# Altium integrated library Xilinx Virtex-II.IntLib: 158 symbols (part 32 of 59)
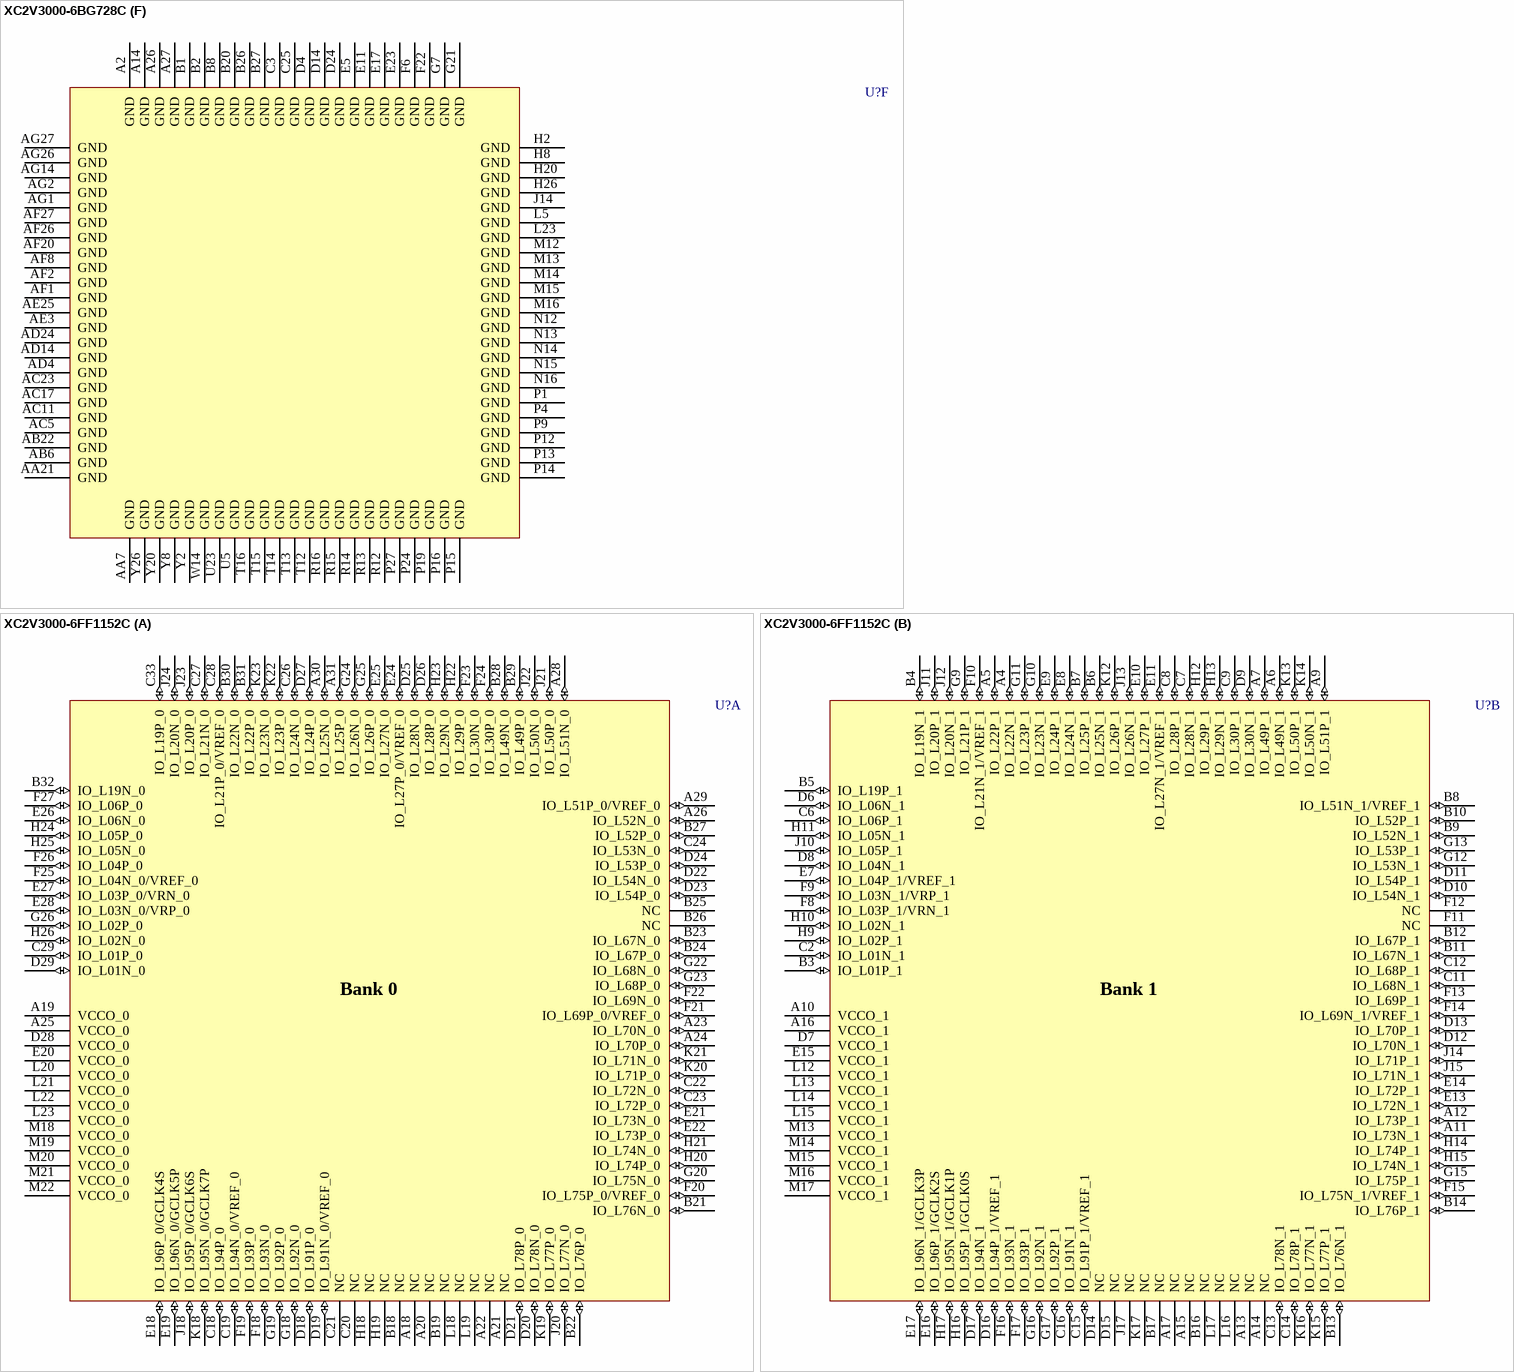
[diagram p430: symbols XC2V3000-6BG728C to XC2V3000-6FF1152C]

## XC2V3000-6BG728C
designator U?
Virtex-II 1.5V FPGA, 728-Ball BGA, Commercial Grade; PackageDocument: ver1.0, Apr-2001; Published: 15-Apr-2002; DatasheetDocument: Mar-2004; PackageReference: BG728; Publisher: Altium Limited; Code_JEDEC: MS-034-BAR-1
footprint BG728 (728-Ball Plastic Ball Grid Array (BG728))
3D model XC2V3000-BG728 (728-Ball Plastic Ball Grid Array (BG728))
signal-integrity model XC2V3000_BG728 (Virtex-II)
part A pins: A3 IO_L01P_0 (io), A4 IO_L02P_0 (io), A5 IO_L04P_0 (io), A6 IO_L06P_0 (io), A7 IO_L24P_0 (io), A8 IO_L49N_0 (io), A9 IO_L49P_0 (io), A10 IO_L67P_0 (io), A11 IO_L73P_0 (io), A12 IO_L78P_0 (io), A13 IO_L94P_0 (io), A15 IO_L95N_1/GCLK1P (io), A16 IO_L78N_1 (io), A17 IO_L72N_1 (io), A18 IO_L67N_1 (io), A19 IO_L49N_1 (io), A20 IO_L49P_1 (io), A21 IO_L19N_1 (io), A22 IO_L06N_1 (io), A23 IO_L03N_1/VRP_1 (io), A24 IO_L02N_1 (io), A25 IO_L01N_1 (io), B3 IO_L01N_0 (io), B4 IO_L02N_0 (io), B5 IO_L04N_0/VREF_0 (io), B6 IO_L06N_0 (io), B7 IO_L24N_0 (io), B9 IO_L30P_0 (io), B10 IO_L67N_0 (io), B11 IO_L73N_0 (io), B12 IO_L78N_0 (io), B13 IO_L94N_0/VREF_0 (io), B15 IO_L95P_1/GCLK0S (io), B16 IO_L78P_1 (io), B17 IO_L72P_1 (io), B18 IO_L67P_1 (io), B19 IO_L30N_1 (io), B21 IO_L19P_1 (io), B22 IO_L06P_1 (io), B23 IO_L03P_1/VRN_1 (io), B24 IO_L02P_1 (io), B25 IO_L01P_1 (io), C5 IO_L03N_0/VRP_0 (io), C6 IO_L03P_0/VRN_0 (io), C7 IO_L22N_0 (io), C8 IO_L22P_0 (io), C9 IO_L30N_0 (io), C10 IO_L54P_0 (io), C11 IO_L72P_0 (io), C12 VCCO_0 (power), C13 IO_L95N_0/GCLK7P (io), C14 IO_L95P_0/GCLK6S (io), C15 IO_L94N_1 (io), C16 VCCO_1 (power), C17 IO_L70N_1 (io), C18 IO_L54N_1 (io), C19 IO_L30P_1 (io), C20 IO_L24N_1 (io), C21 IO_L24P_1 (io), C22 IO_L05N_1 (io), C23 IO_L05P_1 (io), D6 IO_L05P_0 (io), D7 VCCO_0 (power), D8 IO_L19P_0 (io), D9 IO_L28P_0 (io), D10 IO_L54N_0 (io), D11 IO_L72N_0 (io), D12 IO_L76P_0 (io), D13 IO_L93P_0 (io), D15 IO_L94P_1/VREF_1 (io), D16 IO_L76N_1 (io), D17 IO_L70P_1 (io), D18 IO_L54P_1 (io), D19 IO_L28N_1 (io), D20 IO_L22N_1 (io), D21 VCCO_1 (power), D22 IO_L04N_1 (io), E6 IO_L05N_0 (io), E7 IO_L19N_0 (io), E8 IO_L21P_0/VREF_0 (io), E9 IO_L28N_0 (io), E10 IO_L52P_0 (io), E12 IO_L76N_0 (io), E13 IO_L93N_0 (io), E14 IO_L96P_0/GCLK4S (io), E15 IO_L93N_1 (io), E16 IO_L76P_1 (io), E18 IO_L52N_1 (io), E19 IO_L28P_1 (io), E20 IO_L21N_1/VREF_1 (io), E21 IO_L22P_1 (io), E22 IO_L04P_1/VREF_1 (io), F8 IO_L21N_0 (io), F9 IO_L27N_0 (io), F10 IO_L52N_0 (io), F11 IO_L70N_0 (io), F12 IO_L70P_0 (io), F13 IO_L92P_0 (io), F14 IO_L96N_0/GCLK5P (io), F15 IO_L93P_1 (io), F16 IO_L75N_1/VREF_1 (io), F17 IO_L75P_1 (io), F18 IO_L52P_1 (io), F19 IO_L27N_1/VREF_1 (io), F20 IO_L21P_1 (io), G9 IO_L27P_0/VREF_0 (io), G10 IO_L51N_0 (io), G11 IO_L69N_0 (io), G12 VCCO_0 (power), G13 IO_L92N_0 (io), G14 IO_L96N_1/GCLK3P (io), G15 IO_L92N_1 (io), G16 VCCO_1 (power), G17 IO_L69P_1 (io), G18 IO_L69N_1/VREF_1 (io), G19 IO_L27P_1 (io), H9 IO_L25N_0 (io), H10 IO_L51P_0/VREF_0 (io), H11 IO_L69P_0/VREF_0 (io), H12 IO_L75N_0 (io), H13 IO_L91P_0 (io), H14 IO_L96P_1/GCLK2S (io), H15 IO_L92P_1 (io), H16 IO_L73N_1 (io), H17 IO_L73P_1 (io), H18 IO_L51P_1 (io), H19 IO_L51N_1/VREF_1 (io), J9 IO_L25P_0 (io), J10 VCCO_0 (power), J11 VCCO_0 (power), J12 IO_L75P_0/VREF_0 (io), J13 IO_L91N_0/VREF_0 (io), J15 IO_L91N_1 (io), J16 IO_L91P_1/VREF_1 (io), J17 VCCO_1 (power), J18 VCCO_1 (power), J19 IO_L25N_1 (io), J20 IO_L25P_1 (io), K11 VCCO_0 (power), K12 VCCO_0 (power), K13 VCCO_0 (power), K15 VCCO_1 (power), K16 VCCO_1 (power), K17 VCCO_1 (power)
part B pins: AA23 IO_L25P_3 (io), AA24 VCCO_3 (power), AA25 IO_L21P_3 (io), AA26 IO_L21N_3/VREF_3 (io), AA27 IO_L22N_3 (io), AB23 IO_L06P_3 (io), AB24 IO_L06N_3 (io), AB25 IO_L19P_3 (io), AB26 IO_L19N_3 (io), AB27 IO_L22P_3 (io), AC24 IO_L03P_3 (io), AC25 IO_L03N_3/VREF_3 (io), AC26 IO_L04P_3 (io), AC27 IO_L04N_3 (io), AD25 IO_L01P_3 (io), AD26 IO_L01N_3 (io), AD27 IO_L02N_3/VRP_3 (io), AE27 IO_L02P_3/VRN_3 (io), C27 IO_L01N_2 (io), D25 IO_L02N_2/VRP_2 (io), D26 IO_L02P_2/VRN_2 (io), D27 IO_L01P_2 (io), E24 IO_L03N_2 (io), E25 IO_L03P_2/VREF_2 (io), E26 IO_L04N_2 (io), E27 IO_L04P_2 (io), F23 IO_L06N_2 (io), F24 IO_L06P_2 (io), F25 IO_L19N_2 (io), F26 IO_L19P_2 (io), F27 IO_L21N_2 (io), G23 IO_L22N_2 (io), G24 VCCO_2 (power), G25 IO_L24N_2 (io), G26 IO_L24P_2 (io), G27 IO_L21P_2/VREF_2 (io), H21 IO_L25N_2 (io), H22 IO_L27N_2 (io), H23 IO_L22P_2 (io), H24 IO_L28N_2 (io), H25 IO_L28P_2 (io), H27 IO_L30N_2 (io), J21 IO_L25P_2 (io), J22 IO_L27P_2/VREF_2 (io), J23 IO_L43N_2 (io), J24 IO_L43P_2 (io), J25 IO_L45N_2 (io), J26 IO_L45P_2/VREF_2 (io), J27 IO_L30P_2 (io), K19 VCCO_2 (power), K20 IO_L46N_2 (io), K21 IO_L46P_2 (io), K22 IO_L48N_2 (io), K23 IO_L48P_2 (io), K24 IO_L49N_2 (io), K25 IO_L49P_2 (io), K26 IO_L51N_2 (io), K27 IO_L51P_2/VREF_2 (io), L18 VCCO_2 (power), L19 VCCO_2 (power), L20 IO_L52N_2 (io), L21 IO_L54N_2 (io), L22 IO_L54P_2 (io), L24 IO_L67N_2 (io), L25 IO_L67P_2 (io), L26 IO_L69N_2 (io), L27 IO_L69P_2/VREF_2 (io), M18 VCCO_2 (power), M19 IO_L70N_2 (io), M20 IO_L52P_2 (io), M21 VCCO_2 (power), M22 IO_L72N_2 (io), M23 IO_L72P_2 (io), M24 IO_L73N_2 (io), M25 VCCO_2 (power), M26 IO_L75N_2 (io), M27 IO_L75P_2/VREF_2 (io), N18 VCCO_2 (power), N19 IO_L70P_2 (io), N20 IO_L76N_2 (io), N21 IO_L76P_2 (io), N22 IO_L78N_2 (io), N23 IO_L78P_2 (io), N24 IO_L73P_2 (io), N25 IO_L91N_2 (io), N26 IO_L93N_2 (io), N27 IO_L93P_2/VREF_2 (io), P20 IO_L94N_2 (io), P21 IO_L94P_2 (io), P22 IO_L96N_2 (io), P23 IO_L96P_2 (io), P25 IO_L91P_2 (io), R18 VCCO_3 (power), R19 IO_L78P_3 (io), R20 IO_L78N_3 (io), R21 IO_L91P_3 (io), R22 IO_L91N_3 (io), R23 IO_L93N_3/VREF_3 (io), R24 IO_L94P_3 (io), R25 IO_L94N_3 (io), R26 IO_L96P_3 (io), R27 IO_L96N_3 (io), T18 VCCO_3 (power), T19 IO_L72P_3 (io), T20 IO_L72N_3 (io), T21 VCCO_3 (power), T22 IO_L73N_3 (io), T23 IO_L93P_3 (io), T24 IO_L75N_3/VREF_3 (io), T25 VCCO_3 (power), T26 IO_L76P_3 (io), T27 IO_L76N_3 (io), U18 VCCO_3 (power), U19 VCCO_3 (power), U20 IO_L67P_3 (io), U21 IO_L67N_3 (io), U22 IO_L73P_3 (io), U24 IO_L75P_3 (io), U25 IO_L69N_3/VREF_3 (io), U26 IO_L70P_3 (io), U27 IO_L70N_3 (io), V19 VCCO_3 (power), V20 IO_L49P_3 (io), V21 IO_L49N_3 (io), V22 IO_L51N_3/VREF_3 (io), V23 IO_L52P_3 (io), V24 IO_L52N_3 (io), V25 IO_L69P_3 (io), V26 IO_L54P_3 (io), V27 IO_L54N_3 (io), W19 IO_L28N_3 (io), W20 IO_L43P_3 (io), W21 IO_L43N_3 (io), W22 IO_L51P_3 (io), W23 IO_L45P_3 (io), W24 IO_L45N_3/VREF_3 (io), W25 IO_L46P_3 (io), W26 IO_L46N_3 (io), W27 IO_L48N_3 (io), Y19 IO_L28P_3 (io), Y21 IO_L24P_3 (io), Y22 IO_L24N_3 (io), Y23 IO_L25N_3 (io), Y24 IO_L27P_3 (io), Y25 IO_L27N_3/VREF_3 (io), Y27 IO_L48P_3 (io)
part C pins: AA8 IO_L22P_5 (io), AA9 IO_L27P_5 (io), AA10 IO_L69N_5/VREF_5 (io), AA11 IO_L69P_5 (io), AA12 VCCO_5 (power), AA13 IO_L92N_5 (io), AA14 IO_L96P_4/GCLK0P (io), AA15 IO_L92P_4 (io), AA16 VCCO_4 (power), AA17 IO_L69N_4 (io), AA18 IO_L51N_4 (io), AA19 IO_L28P_4 (io), AA20 IO_L24P_4 (io), AB7 IO_L19P_5 (io), AB8 IO_L22N_5 (io), AB9 IO_L27N_5/VREF_5 (io), AB10 IO_L52P_5 (io), AB11 IO_L75P_5 (io), AB12 IO_L75N_5/VREF_5 (io), AB13 IO_L93P_5 (io), AB14 IO_L96P_5/GCLK6P (io), AB15 IO_L92N_4 (io), AB16 IO_L70P_4 (io), AB17 IO_L70N_4 (io), AB18 IO_L52N_4 (io), AB19 IO_L28N_4 (io), AB20 IO_L24N_4 (io), AB21 IO_L19P_4 (io), AC7 IO_L19N_5 (io), AC8 IO_L24P_5 (io), AC9 IO_L28P_5 (io), AC10 IO_L52N_5 (io), AC12 IO_L76P_5 (io), AC13 IO_L93N_5 (io), AC14 IO_L96N_5/GCLK7S (io), AC15 IO_L93N_4 (io), AC16 IO_L76N_4 (io), AC18 IO_L52P_4 (io), AC19 IO_L30N_4 (io), AC20 IO_L25N_4 (io), AC21 IO_L19N_4 (io), AD5 IO_L03P_5/D5/ALT_VRN_5 (io), AD6 IO_L05P_5/VRN_5 (io), AD7 VCCO_5 (power), AD8 IO_L24N_5 (io), AD9 IO_L28N_5 (io), AD10 IO_L54P_5 (io), AD11 IO_L70P_5 (io), AD12 IO_L76N_5 (io), AD13 IO_L94P_5/VREF_5 (io), AD15 IO_L93P_4 (io), AD16 IO_L76P_4 (io), AD17 IO_L72N_4 (io), AD18 IO_L54N_4 (io), AD19 IO_L30P_4 (io), AD20 IO_L25P_4 (io), AD21 VCCO_4 (power), AD22 IO_L05N_4/VRP_4 (io), AD23 IO_L03N_4/D2/ALT_VRP_4 (io), AE5 IO_L03N_5/D4/ALT_VRP_5 (io), AE6 IO_L05N_5/VRP_5 (io), AE7 IO_L25P_5 (io), AE8 IO_L25N_5 (io), AE9 IO_L30P_5 (io), AE10 IO_L54N_5 (io), AE11 IO_L70N_5 (io), AE12 VCCO_5 (power), AE13 IO_L94N_5 (io), AE14 IO_L94P_4 (io), AE15 IO_L94N_4/VREF_4 (io), AE16 VCCO_4 (power), AE17 IO_L72P_4 (io), AE18 IO_L54P_4 (io), AE19 IO_L49N_4 (io), AE20 IO_L21P_4/VREF_4 (io), AE21 IO_L21N_4 (io), AE22 IO_L05P_4/VRN_4 (io), AE23 IO_L03P_4/D3/ALT_VRN_4 (io), AF3 IO_L01P_5/CS_B (io), AF4 IO_L02P_5/D7 (io), AF5 IO_L04P_5/VREF_5 (io), AF6 IO_L06P_5 (io), AF7 IO_L21P_5 (io), AF9 IO_L30N_5 (io), AF10 IO_L67P_5 (io), AF11 IO_L72P_5 (io), AF12 IO_L78P_5 (io), AF13 IO_L95P_5/GCLK4P (io), AF15 IO_L95N_4/GCLK3S (io), AF16 IO_L78N_4 (io), AF17 IO_L73N_4 (io), AF18 IO_L67N_4 (io), AF19 IO_L49P_4 (io), AF21 IO_L22N_4 (io), AF22 IO_L06N_4 (io), AF23 IO_L04N_4/VREF_4 (io), AF24 IO_L02N_4/D0 (io), AF25 IO_L01N_4/DOUT (io), AG3 IO_L01N_5/RDWR_B (io), AG4 IO_L02N_5/D6 (io), AG5 IO_L04N_5 (io), AG6 IO_L06N_5 (io), AG7 IO_L21N_5/VREF_5 (io), AG8 IO_L49P_5 (io), AG9 IO_L49N_5 (io), AG10 IO_L67N_5 (io), AG11 IO_L72N_5 (io), AG12 IO_L78N_5 (io), AG13 IO_L95N_5/GCLK5S (io), AG15 IO_L95P_4/GCLK2P (io), AG16 IO_L78P_4 (io), AG17 IO_L73P_4 (io), AG18 IO_L67P_4 (io), AG19 IO_L27P_4/VREF_4 (io), AG20 IO_L27N_4 (io), AG21 IO_L22P_4 (io), AG22 IO_L06P_4 (io), AG23 IO_L04P_4 (io), AG24 IO_L02P_4/D1 (io), AG25 IO_L01P_4/INIT_B (io), V11 VCCO_5 (power), V12 VCCO_5 (power), V13 VCCO_5 (power), V15 VCCO_4 (power), V16 VCCO_4 (power), V17 VCCO_4 (power), W10 VCCO_5 (power), W11 VCCO_5 (power), W12 IO_L91P_5/VREF_5 (io), W13 IO_L91N_5 (io), W15 IO_L91N_4/VREF_4 (io), W16 IO_L75P_4/VREF_4 (io), W17 VCCO_4 (power), W18 VCCO_4 (power), Y9 IO_L51N_5/VREF_5 (io), Y10 IO_L51P_5 (io), Y11 IO_L73P_5 (io), Y12 IO_L73N_5 (io), Y13 IO_L92P_5 (io), Y14 IO_L96N_4/GCLK1S (io), Y15 IO_L91P_4 (io), Y16 IO_L75N_4 (io), Y17 IO_L69P_4/VREF_4 (io), Y18 IO_L51P_4/VREF_4 (io)
part D pins: AA1 IO_L21N_6/VREF_6 (io), AA2 IO_L24N_6 (io), AA3 IO_L24P_6 (io), AA4 VCCO_6 (power), AA5 IO_L22P_6 (io), AA6 IO_L22N_6 (io), AB1 IO_L21P_6 (io), AB2 IO_L19N_6 (io), AB3 IO_L19P_6 (io), AB4 IO_L06N_6 (io), AB5 IO_L06P_6 (io), AC1 IO_L04N_6 (io), AC2 IO_L04P_6 (io), AC3 IO_L03N_6/VREF_6 (io), AC4 IO_L03P_6 (io), AD1 IO_L01N_6 (io), AD2 IO_L02N_6/VRP_6 (io), AD3 IO_L02P_6/VRN_6 (io), AE1 IO_L01P_6 (io), C1 IO_L03N_7 (io), D1 IO_L03P_7/VREF_7 (io), D2 IO_L01P_7 (io), D3 IO_L01N_7 (io), E1 IO_L04P_7 (io), E2 IO_L04N_7 (io), E3 IO_L02P_7/VRN_7 (io), E4 IO_L02N_7/VRP_7 (io), F1 IO_L24N_7 (io), F2 IO_L21P_7/VREF_7 (io), F3 IO_L21N_7 (io), F4 IO_L06P_7 (io), F5 IO_L06N_7 (io), G1 IO_L24P_7 (io), G2 IO_L22P_7 (io), G3 IO_L22N_7 (io), G4 VCCO_7 (power), G5 IO_L19P_7 (io), G6 IO_L19N_7 (io), H1 IO_L46N_7 (io), H3 IO_L30P_7 (io), H4 IO_L30N_7 (io), H5 IO_L27P_7/VREF_7 (io), H6 IO_L27N_7 (io), J1 IO_L46P_7 (io), J2 IO_L45P_7/VREF_7 (io), J3 IO_L45N_7 (io), J4 IO_L43N_7 (io), J5 IO_L28P_7 (io), J6 IO_L28N_7 (io), J7 IO_L25P_7 (io), J8 IO_L25N_7 (io), K1 IO_L54P_7 (io), K2 IO_L54N_7 (io), K3 IO_L43P_7 (io), K4 IO_L52P_7 (io), K5 IO_L52N_7 (io), K6 IO_L49P_7 (io), K7 IO_L49N_7 (io), K8 IO_L48N_7 (io), K9 VCCO_7 (power), L1 IO_L69P_7/VREF_7 (io), L2 IO_L69N_7 (io), L3 IO_L67P_7 (io), L4 IO_L67N_7 (io), L6 IO_L51P_7/VREF_7 (io), L7 IO_L51N_7 (io), L8 IO_L48P_7 (io), L9 VCCO_7 (power), L10 VCCO_7 (power), M1 IO_L73P_7 (io), M2 IO_L73N_7 (io), M3 VCCO_7 (power), M4 IO_L72P_7 (io), M5 IO_L72N_7 (io), M6 IO_L75N_7 (io), M7 VCCO_7 (power), M8 IO_L70P_7 (io), M9 IO_L70N_7 (io), M10 VCCO_7 (power), N1 IO_L93P_7/VREF_7 (io), N2 IO_L93N_7 (io), N3 IO_L91P_7 (io), N4 IO_L91N_7 (io), N5 IO_L75P_7/VREF_7 (io), N6 IO_L78P_7 (io), N7 IO_L78N_7 (io), N8 IO_L76N_7 (io), N9 IO_L76P_7 (io), N10 VCCO_7 (power), P3 IO_L94N_6 (io), P5 IO_L96P_7 (io), P6 IO_L96N_7 (io), P7 IO_L94P_7 (io), P8 IO_L94N_7 (io), R1 IO_L96N_6 (io), R2 IO_L96P_6 (io), R3 IO_L94P_6 (io), R4 IO_L76N_6 (io), R5 IO_L93P_6 (io), R6 IO_L93N_6/VREF_6 (io), R7 IO_L91P_6 (io), R8 IO_L91N_6 (io), R9 IO_L73N_6 (io), R10 VCCO_6 (power), T1 IO_L78N_6 (io), T2 IO_L78P_6 (io), T3 VCCO_6 (power), T4 IO_L76P_6 (io), T5 IO_L75P_6 (io), T6 IO_L75N_6/VREF_6 (io), T7 VCCO_6 (power), T8 IO_L67N_6 (io), T9 IO_L73P_6 (io), T10 VCCO_6 (power), U1 IO_L72N_6 (io), U2 IO_L72P_6 (io), U3 IO_L70N_6 (io), U4 IO_L70P_6 (io), U6 IO_L69P_6 (io), U7 IO_L69N_6/VREF_6 (io), U8 IO_L67P_6 (io), U9 VCCO_6 (power), U10 VCCO_6 (power), V1 IO_L54N_6 (io), V2 IO_L54P_6 (io), V3 IO_L52N_6 (io), V4 IO_L52P_6 (io), V5 IO_L51P_6 (io), V6 IO_L51N_6/VREF_6 (io), V7 IO_L49P_6 (io), V8 IO_L49N_6 (io), V9 VCCO_6 (power), W1 IO_L28N_6 (io), W2 IO_L48N_6 (io), W3 IO_L48P_6 (io), W4 IO_L46N_6 (io), W5 IO_L46P_6 (io), W6 IO_L45P_6 (io), W7 IO_L45N_6/VREF_6 (io), W8 IO_L43P_6 (io), W9 IO_L43N_6 (io), Y1 IO_L28P_6 (io), Y3 IO_L27N_6/VREF_6 (io), Y4 IO_L27P_6 (io), Y5 IO_L25P_6 (io), Y6 IO_L25N_6 (io)
part E pins: AA22 CCLK (io), AC6 M0 (in), AC22 DONE (io), AE2 VCCAUX (power), AE4 M2 (in), AE24 PWRDWN_B (in), AE26 VCCAUX (power), AF14 VCCAUX (power), B14 VCCAUX (power), C2 VCCAUX (power), C4 PROG_B (in), C24 RSVD, C26 VCCAUX (power), D5 HSWAP_EN (in), D23 VBATT (power), F7 DXP, F21 TMS (in), G8 DXN, G20 TCK (in), G22 TDO (out), H7 TDI (in), K10 VCCINT (power), K14 VCCINT (power), K18 VCCINT (power), L11 VCCINT (power), L12 VCCINT (power), L13 VCCINT (power), L14 VCCINT (power), L15 VCCINT (power), L16 VCCINT (power), L17 VCCINT (power), M11 VCCINT (power), M17 VCCINT (power), N11 VCCINT (power), N17 VCCINT (power), P2 VCCAUX (power), P10 VCCINT (power), P11 VCCINT (power), P17 VCCINT (power), P18 VCCINT (power), P26 VCCAUX (power), R11 VCCINT (power), R17 VCCINT (power), T11 VCCINT (power), T17 VCCINT (power), U11 VCCINT (power), U12 VCCINT (power), U13 VCCINT (power), U14 VCCINT (power), U15 VCCINT (power), U16 VCCINT (power), U17 VCCINT (power), V10 VCCINT (power), V14 VCCINT (power), V18 VCCINT (power), Y7 M1 (in)
part F pins: A2 GND (power), A14 GND (power), A26 GND (power), A27 GND (power), AA7 GND (power), AA21 GND (power), AB6 GND (power), AB22 GND (power), AC5 GND (power), AC11 GND (power), AC17 GND (power), AC23 GND (power), AD4 GND (power), AD14 GND (power), AD24 GND (power), AE3 GND (power), AE25 GND (power), AF1 GND (power), AF2 GND (power), AF8 GND (power), AF20 GND (power), AF26 GND (power), AF27 GND (power), AG1 GND (power), AG2 GND (power), AG14 GND (power), AG26 GND (power), AG27 GND (power), B1 GND (power), B2 GND (power), B8 GND (power), B20 GND (power), B26 GND (power), B27 GND (power), C3 GND (power), C25 GND (power), D4 GND (power), D14 GND (power), D24 GND (power), E5 GND (power), E11 GND (power), E17 GND (power), E23 GND (power), F6 GND (power), F22 GND (power), G7 GND (power), G21 GND (power), H2 GND (power), H8 GND (power), H20 GND (power), H26 GND (power), J14 GND (power), L5 GND (power), L23 GND (power), M12 GND (power), M13 GND (power), M14 GND (power), M15 GND (power), M16 GND (power), N12 GND (power), N13 GND (power), N14 GND (power), N15 GND (power), N16 GND (power), P1 GND (power), P4 GND (power), P9 GND (power), P12 GND (power), P13 GND (power), P14 GND (power), P15 GND (power), P16 GND (power), P19 GND (power), P24 GND (power), P27 GND (power), R12 GND (power), R13 GND (power), R14 GND (power), R15 GND (power), R16 GND (power), T12 GND (power), T13 GND (power), T14 GND (power), T15 GND (power), T16 GND (power), U5 GND (power), U23 GND (power), W14 GND (power), Y2 GND (power), Y8 GND (power), Y20 GND (power), Y26 GND (power)
part A text: BANK 0; BANK 1
part B text: BANK 2; BANK 3
part C text: BANK 4; BANK 5
part D text: BANK 6; BANK 7

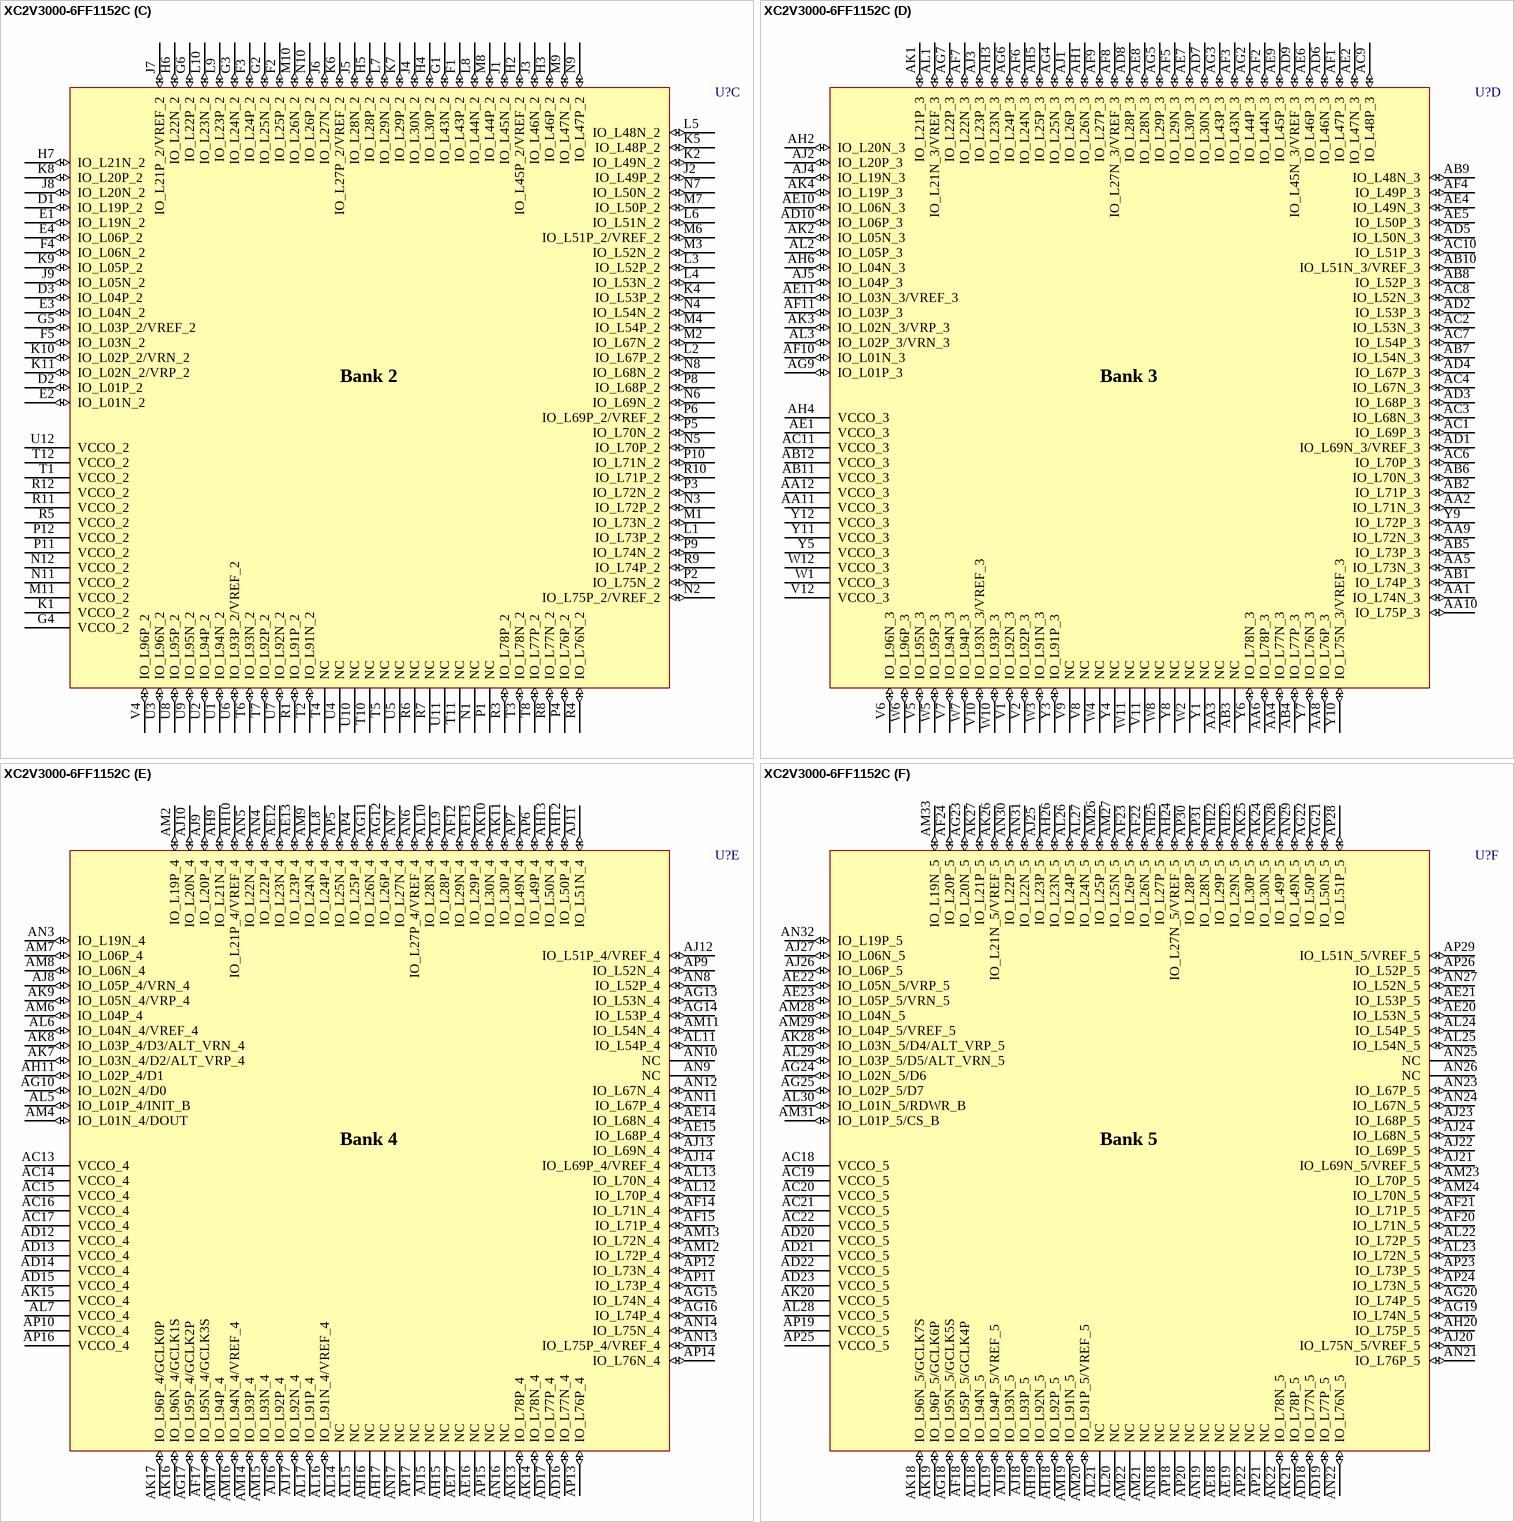
[diagram p288: symbol XC2V3000-6FF1152C]

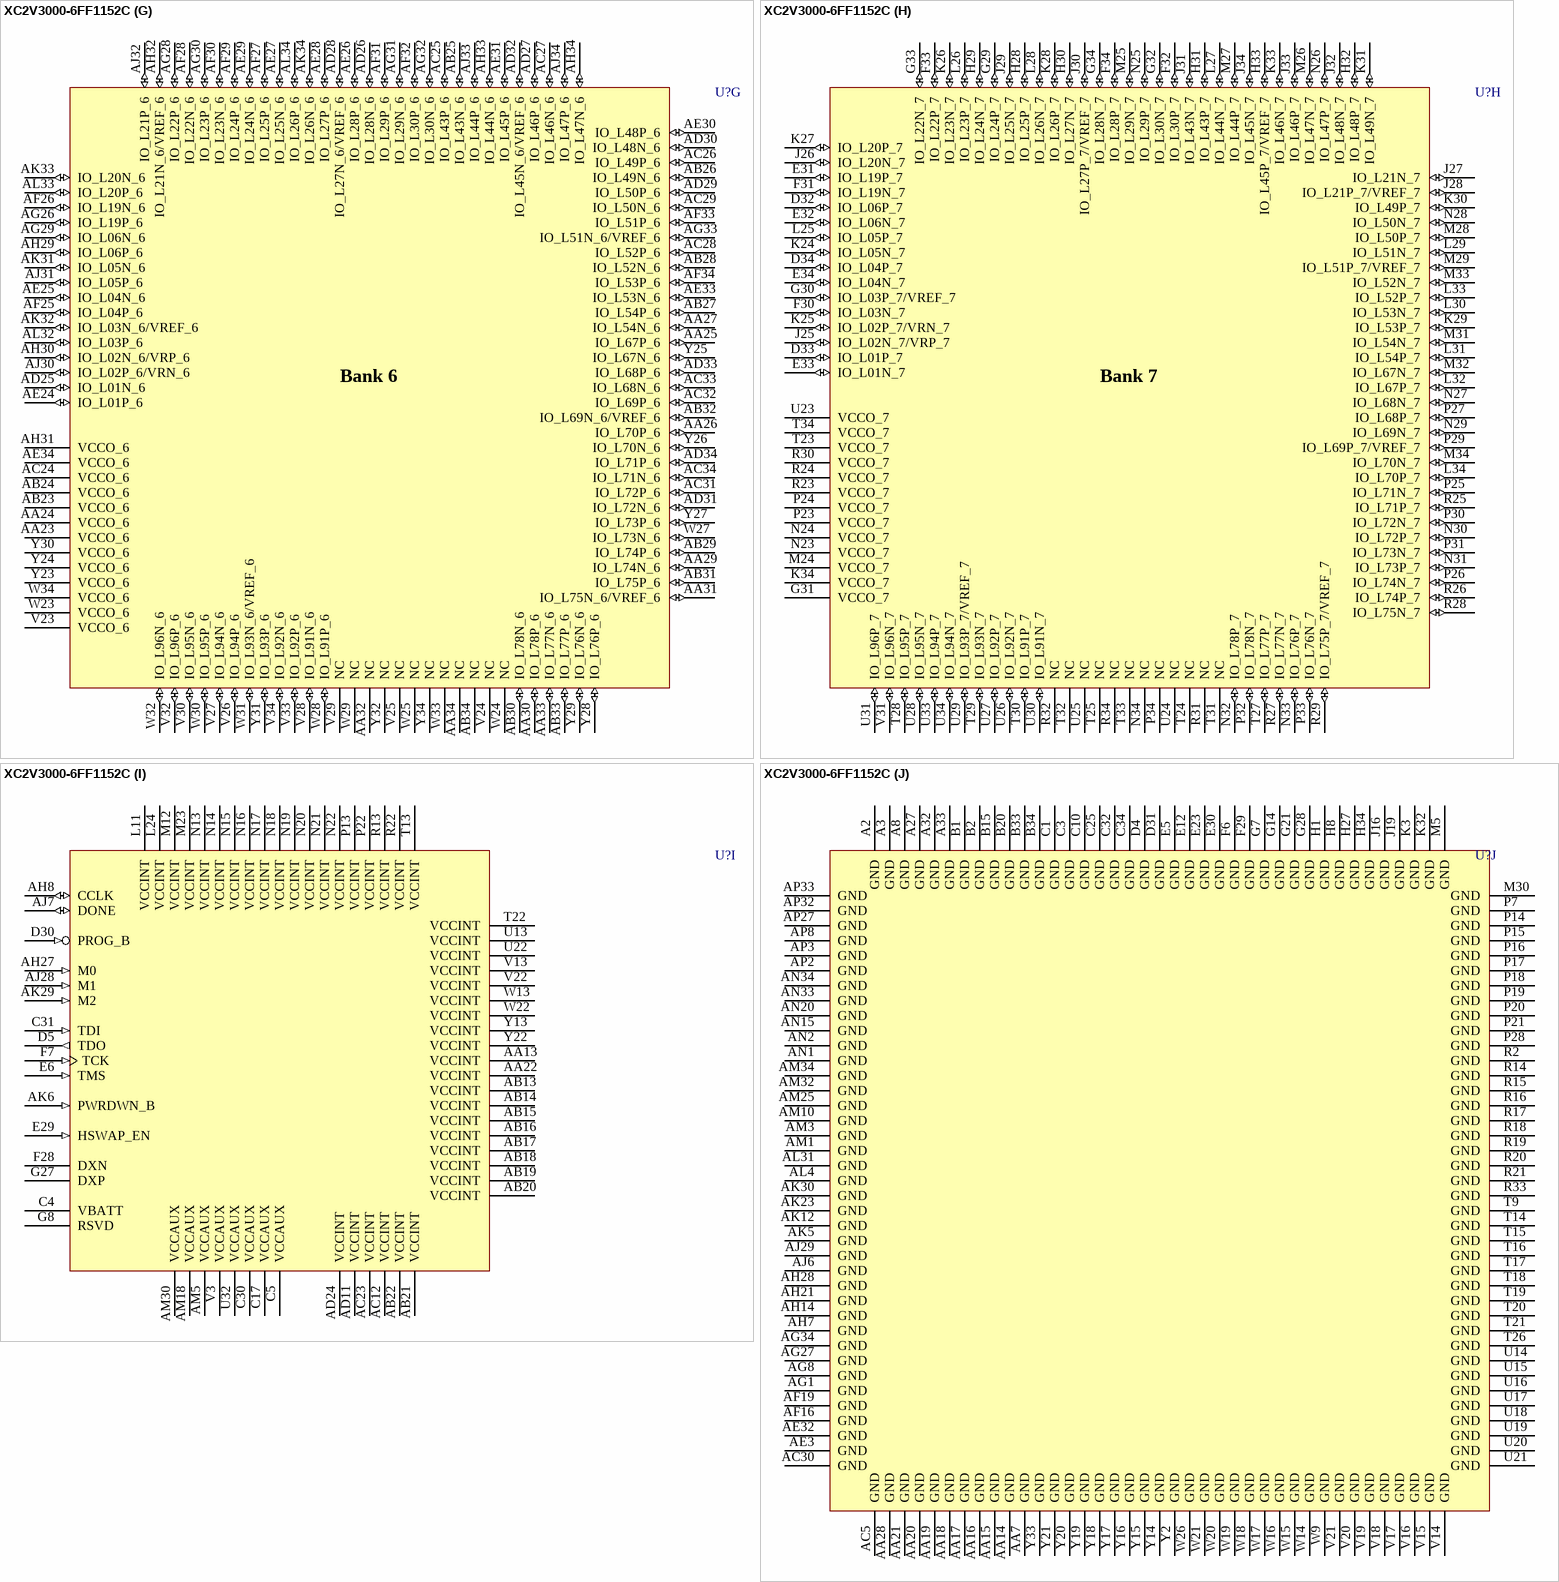
[diagram p289: symbol XC2V3000-6FF1152C]

## XC2V3000-6FF1152C
designator U?
Virtex-II 1.5V FPGA, 1152-Ball BGA, Commercial Grade; PackageDocument: ver1.0, Apr-2001; Published: 15-Apr-2002; DatasheetDocument: Mar-2004; PackageReference: FF1152; Publisher: Altium Limited; Code_JEDEC: MS-034-AAR-1
footprint FF1152 (1152-Ball Flip-Chip Fine Pitch Ball Grid Array (FF1152))
3D model XC2V3000-FF1152 (1152-Ball Flip-Chip Fine Pitch Ball Grid Array (FF1152))
signal-integrity model XC2V3000_FF1152 (Virtex-II)
part A pins: A18 NC, A19 VCCO_0 (power), A20 NC, A21 NC, A22 NC, A23 IO_L70N_0 (io), A24 IO_L70P_0 (io), A25 VCCO_0 (power), A26 IO_L52N_0 (io), A28 IO_L51N_0 (io), A29 IO_L51P_0/VREF_0 (io), A30 IO_L25N_0 (io), A31 IO_L25P_0 (io), B18 NC, B19 NC, B21 IO_L76N_0 (io), B22 IO_L76P_0 (io), B23 IO_L67N_0 (io), B24 IO_L67P_0 (io), B25 NC, B26 NC, B27 IO_L52P_0 (io), B28 IO_L49N_0 (io), B29 IO_L49P_0 (io), B30 IO_L22N_0 (io), B31 IO_L22P_0 (io), B32 IO_L19N_0 (io), C18 IO_L94P_0 (io), C19 IO_L94N_0/VREF_0 (io), C20 NC, C21 NC, C22 IO_L72N_0 (io), C23 IO_L72P_0 (io), C24 IO_L53N_0 (io), C26 IO_L24N_0 (io), C27 IO_L21N_0 (io), C28 IO_L21P_0/VREF_0 (io), C29 IO_L01P_0 (io), C33 IO_L19P_0 (io), D18 IO_L91P_0 (io), D19 IO_L91N_0/VREF_0 (io), D20 IO_L78N_0 (io), D21 IO_L78P_0 (io), D22 IO_L54N_0 (io), D23 IO_L54P_0 (io), D24 IO_L53P_0 (io), D25 IO_L28N_0 (io), D26 IO_L28P_0 (io), D27 IO_L24P_0 (io), D28 VCCO_0 (power), D29 IO_L01N_0 (io), E18 IO_L96P_0/GCLK4S (io), E19 IO_L96N_0/GCLK5P (io), E20 VCCO_0 (power), E21 IO_L73N_0 (io), E22 IO_L73P_0 (io), E24 IO_L27P_0/VREF_0 (io), E25 IO_L27N_0 (io), E26 IO_L06N_0 (io), E27 IO_L03P_0/VRN_0 (io), E28 IO_L03N_0/VRP_0 (io), F18 IO_L93N_0 (io), F19 IO_L93P_0 (io), F20 IO_L75P_0/VREF_0 (io), F21 IO_L69P_0/VREF_0 (io), F22 IO_L69N_0 (io), F23 IO_L30N_0 (io), F24 IO_L30P_0 (io), F25 IO_L04N_0/VREF_0 (io), F26 IO_L04P_0 (io), F27 IO_L06P_0 (io), G18 IO_L92N_0 (io), G19 IO_L92P_0 (io), G20 IO_L75N_0 (io), G22 IO_L68N_0 (io), G23 IO_L68P_0 (io), G24 IO_L26N_0 (io), G25 IO_L26P_0 (io), G26 IO_L02P_0 (io), H18 NC, H19 NC, H20 IO_L74P_0 (io), H21 IO_L74N_0 (io), H22 IO_L29P_0 (io), H23 IO_L29N_0 (io), H24 IO_L05P_0 (io), H25 IO_L05N_0 (io), H26 IO_L02N_0 (io), J18 IO_L95P_0/GCLK6S (io), J20 IO_L77N_0 (io), J21 IO_L50P_0 (io), J22 IO_L50N_0 (io), J23 IO_L20P_0 (io), J24 IO_L20N_0 (io), K18 IO_L95N_0/GCLK7P (io), K19 IO_L77P_0 (io), K20 IO_L71P_0 (io), K21 IO_L71N_0 (io), K22 IO_L23P_0 (io), K23 IO_L23N_0 (io), L18 NC, L19 NC, L20 VCCO_0 (power), L21 VCCO_0 (power), L22 VCCO_0 (power), L23 VCCO_0 (power), M18 VCCO_0 (power), M19 VCCO_0 (power), M20 VCCO_0 (power), M21 VCCO_0 (power), M22 VCCO_0 (power)
part B pins: A4 IO_L22N_1 (io), A5 IO_L22P_1 (io), A6 IO_L49N_1 (io), A7 IO_L49P_1 (io), A9 IO_L51P_1 (io), A10 VCCO_1 (power), A11 IO_L73N_1 (io), A12 IO_L73P_1 (io), A13 NC, A14 NC, A15 NC, A16 VCCO_1 (power), A17 NC, B3 IO_L01P_1 (io), B4 IO_L19N_1 (io), B5 IO_L19P_1 (io), B6 IO_L25N_1 (io), B7 IO_L25P_1 (io), B8 IO_L51N_1/VREF_1 (io), B9 IO_L52N_1 (io), B10 IO_L52P_1 (io), B11 IO_L67N_1 (io), B12 IO_L67P_1 (io), B13 IO_L76N_1 (io), B14 IO_L76P_1 (io), B16 NC, B17 NC, C2 IO_L01N_1 (io), C6 IO_L06P_1 (io), C7 IO_L28N_1 (io), C8 IO_L28P_1 (io), C9 IO_L30P_1 (io), C11 IO_L68N_1 (io), C12 IO_L68P_1 (io), C13 IO_L78N_1 (io), C14 IO_L78P_1 (io), C15 IO_L91P_1/VREF_1 (io), C16 IO_L91N_1 (io), D6 IO_L06N_1 (io), D7 VCCO_1 (power), D8 IO_L04N_1 (io), D9 IO_L30N_1 (io), D10 IO_L54N_1 (io), D11 IO_L54P_1 (io), D12 IO_L70N_1 (io), D13 IO_L70P_1 (io), D14 NC, D15 NC, D16 IO_L94P_1/VREF_1 (io), D17 IO_L94N_1 (io), E7 IO_L04P_1/VREF_1 (io), E8 IO_L24N_1 (io), E9 IO_L24P_1 (io), E10 IO_L27P_1 (io), E11 IO_L27N_1/VREF_1 (io), E13 IO_L72N_1 (io), E14 IO_L72P_1 (io), E15 VCCO_1 (power), E16 IO_L96P_1/GCLK2S (io), E17 IO_L96N_1/GCLK3P (io), F8 IO_L03P_1/VRN_1 (io), F9 IO_L03N_1/VRP_1 (io), F10 IO_L21N_1/VREF_1 (io), F11 NC, F12 NC, F13 IO_L69P_1 (io), F14 IO_L69N_1/VREF_1 (io), F15 IO_L75N_1/VREF_1 (io), F16 IO_L93N_1 (io), F17 IO_L93P_1 (io), G9 IO_L21P_1 (io), G10 IO_L23N_1 (io), G11 IO_L23P_1 (io), G12 IO_L53N_1 (io), G13 IO_L53P_1 (io), G15 IO_L75P_1 (io), G16 IO_L92N_1 (io), G17 IO_L92P_1 (io), H9 IO_L02P_1 (io), H10 IO_L02N_1 (io), H11 IO_L05N_1 (io), H12 IO_L29P_1 (io), H13 IO_L29N_1 (io), H14 IO_L74P_1 (io), H15 IO_L74N_1 (io), H16 IO_L95P_1/GCLK0S (io), H17 IO_L95N_1/GCLK1P (io), J10 IO_L05P_1 (io), J11 IO_L20P_1 (io), J12 IO_L20N_1 (io), J13 IO_L26N_1 (io), J14 IO_L71P_1 (io), J15 IO_L71N_1 (io), J17 NC, K12 IO_L26P_1 (io), K13 IO_L50P_1 (io), K14 IO_L50N_1 (io), K15 IO_L77P_1 (io), K16 IO_L77N_1 (io), K17 NC, L12 VCCO_1 (power), L13 VCCO_1 (power), L14 VCCO_1 (power), L15 VCCO_1 (power), L16 NC, L17 NC, M13 VCCO_1 (power), M14 VCCO_1 (power), M15 VCCO_1 (power), M16 VCCO_1 (power), M17 VCCO_1 (power)
part C pins: D1 IO_L19P_2 (io), D2 IO_L01P_2 (io), D3 IO_L04P_2 (io), E1 IO_L19N_2 (io), E2 IO_L01N_2 (io), E3 IO_L04N_2 (io), E4 IO_L06P_2 (io), F1 IO_L43P_2 (io), F2 IO_L25P_2 (io), F3 IO_L24P_2 (io), F4 IO_L06N_2 (io), F5 IO_L03N_2 (io), G1 IO_L43N_2 (io), G2 IO_L25N_2 (io), G3 IO_L24N_2 (io), G4 VCCO_2 (power), G5 IO_L03P_2/VREF_2 (io), G6 IO_L22P_2 (io), H2 IO_L45P_2/VREF_2 (io), H3 IO_L46P_2 (io), H4 IO_L30P_2 (io), H5 IO_L28P_2 (io), H6 IO_L22N_2 (io), H7 IO_L21N_2 (io), J1 IO_L45N_2 (io), J2 IO_L49P_2 (io), J3 IO_L46N_2 (io), J4 IO_L30N_2 (io), J5 IO_L28N_2 (io), J6 IO_L27N_2 (io), J7 IO_L21P_2/VREF_2 (io), J8 IO_L20N_2 (io), J9 IO_L05N_2 (io), K1 VCCO_2 (power), K2 IO_L49N_2 (io), K4 IO_L53P_2 (io), K5 IO_L48P_2 (io), K6 IO_L27P_2/VREF_2 (io), K7 IO_L29P_2 (io), K8 IO_L20P_2 (io), K9 IO_L05P_2 (io), K10 IO_L02P_2/VRN_2 (io), K11 IO_L02N_2/VRP_2 (io), L1 IO_L73P_2 (io), L2 IO_L67P_2 (io), L3 IO_L52P_2 (io), L4 IO_L53N_2 (io), L5 IO_L48N_2 (io), L6 IO_L51N_2 (io), L7 IO_L29N_2 (io), L8 IO_L44N_2 (io), L9 IO_L23P_2 (io), L10 IO_L23N_2 (io), M1 IO_L73N_2 (io), M2 IO_L67N_2 (io), M3 IO_L52N_2 (io), M4 IO_L54P_2 (io), M6 IO_L51P_2/VREF_2 (io), M7 IO_L50P_2 (io), M8 IO_L44P_2 (io), M9 IO_L47N_2 (io), M10 IO_L26N_2 (io), M11 VCCO_2 (power), N1 NC, N2 IO_L75P_2/VREF_2 (io), N3 IO_L72P_2 (io), N4 IO_L54N_2 (io), N5 IO_L70P_2 (io), N6 IO_L69N_2 (io), N7 IO_L50N_2 (io), N8 IO_L68N_2 (io), N9 IO_L47P_2 (io), N10 IO_L26P_2 (io), N11 VCCO_2 (power), N12 VCCO_2 (power), P1 NC, P2 IO_L75N_2 (io), P3 IO_L72N_2 (io), P4 IO_L76P_2 (io), P5 IO_L70N_2 (io), P6 IO_L69P_2/VREF_2 (io), P8 IO_L68P_2 (io), P9 IO_L74N_2 (io), P10 IO_L71N_2 (io), P11 VCCO_2 (power), P12 VCCO_2 (power), R1 IO_L91P_2 (io), R3 IO_L78P_2 (io), R4 IO_L76N_2 (io), R5 VCCO_2 (power), R6 NC, R7 NC, R8 IO_L77N_2 (io), R9 IO_L74P_2 (io), R10 IO_L71P_2 (io), R11 VCCO_2 (power), R12 VCCO_2 (power), T1 VCCO_2 (power), T2 IO_L91N_2 (io), T3 IO_L78N_2 (io), T4 NC, T5 NC, T6 IO_L93N_2 (io), T7 IO_L92P_2 (io), T8 IO_L77P_2 (io), T10 NC, T11 NC, T12 VCCO_2 (power), U1 IO_L94N_2 (io), U2 IO_L94P_2 (io), U3 IO_L96N_2 (io), U4 NC, U5 NC, U6 IO_L93P_2/VREF_2 (io), U7 IO_L92N_2 (io), U8 IO_L95P_2 (io), U9 IO_L95N_2 (io), U10 NC, U11 NC, U12 VCCO_2 (power), V4 IO_L96P_2 (io)
part D pins: AA1 IO_L74N_3 (io), AA2 IO_L71N_3 (io), AA3 NC, AA4 IO_L77N_3 (io), AA5 IO_L73N_3 (io), AA6 IO_L78P_3 (io), AA8 IO_L76P_3 (io), AA9 IO_L72N_3 (io), AA10 IO_L75P_3 (io), AA11 VCCO_3 (power), AA12 VCCO_3 (power), AB1 IO_L74P_3 (io), AB2 IO_L71P_3 (io), AB3 NC, AB4 IO_L77P_3 (io), AB5 IO_L73P_3 (io), AB6 IO_L70N_3 (io), AB7 IO_L54N_3 (io), AB8 IO_L52P_3 (io), AB9 IO_L48N_3 (io), AB10 IO_L51N_3/VREF_3 (io), AB11 VCCO_3 (power), AB12 VCCO_3 (power), AC1 IO_L69P_3 (io), AC2 IO_L53N_3 (io), AC3 IO_L68N_3 (io), AC4 IO_L67N_3 (io), AC6 IO_L70P_3 (io), AC7 IO_L54P_3 (io), AC8 IO_L52N_3 (io), AC9 IO_L48P_3 (io), AC10 IO_L51P_3 (io), AC11 VCCO_3 (power), AD1 IO_L69N_3/VREF_3 (io), AD2 IO_L53P_3 (io), AD3 IO_L68P_3 (io), AD4 IO_L67P_3 (io), AD5 IO_L50N_3 (io), AD6 IO_L46N_3 (io), AD7 IO_L30N_3 (io), AD8 IO_L28P_3 (io), AD9 IO_L45N_3/VREF_3 (io), AD10 IO_L06P_3 (io), AE1 VCCO_3 (power), AE2 IO_L47N_3 (io), AE4 IO_L49N_3 (io), AE5 IO_L50P_3 (io), AE6 IO_L46P_3 (io), AE7 IO_L30P_3 (io), AE8 IO_L28N_3 (io), AE9 IO_L45P_3 (io), AE10 IO_L06N_3 (io), AE11 IO_L03N_3/VREF_3 (io), AF1 IO_L47P_3 (io), AF2 IO_L44N_3 (io), AF3 IO_L43N_3 (io), AF4 IO_L49P_3 (io), AF5 IO_L29N_3 (io), AF6 IO_L24N_3 (io), AF7 IO_L22N_3 (io), AF8 IO_L27N_3/VREF_3 (io), AF9 IO_L27P_3 (io), AF10 IO_L01N_3 (io), AF11 IO_L03P_3 (io), AG2 IO_L44P_3 (io), AG3 IO_L43P_3 (io), AG4 IO_L25N_3 (io), AG5 IO_L29P_3 (io), AG6 IO_L24P_3 (io), AG7 IO_L22P_3 (io), AG9 IO_L01P_3 (io), AH1 IO_L26N_3 (io), AH2 IO_L20N_3 (io), AH3 IO_L23N_3 (io), AH4 VCCO_3 (power), AH5 IO_L25P_3 (io), AH6 IO_L04N_3 (io), AJ1 IO_L26P_3 (io), AJ2 IO_L20P_3 (io), AJ3 IO_L23P_3 (io), AJ4 IO_L19N_3 (io), AJ5 IO_L04P_3 (io), AK1 IO_L21P_3 (io), AK2 IO_L05N_3 (io), AK3 IO_L02N_3/VRP_3 (io), AK4 IO_L19P_3 (io), AL1 IO_L21N_3/VREF_3 (io), AL2 IO_L05P_3 (io), AL3 IO_L02P_3/VRN_3 (io), V1 IO_L92N_3 (io), V2 IO_L92P_3 (io), V5 IO_L95N_3 (io), V6 IO_L96N_3 (io), V7 IO_L94N_3 (io), V8 NC, V9 NC, V10 IO_L93N_3/VREF_3 (io), V11 NC, V12 VCCO_3 (power), W1 VCCO_3 (power), W2 NC, W3 IO_L91N_3 (io), W4 NC, W5 IO_L95P_3 (io), W6 IO_L96P_3 (io), W7 IO_L94P_3 (io), W8 NC, W10 IO_L93P_3 (io), W11 NC, W12 VCCO_3 (power), Y1 NC, Y3 IO_L91P_3 (io), Y4 NC, Y5 VCCO_3 (power), Y6 IO_L78N_3 (io), Y7 IO_L76N_3 (io), Y8 NC, Y9 IO_L72P_3 (io), Y10 IO_L75N_3/VREF_3 (io), Y11 VCCO_3 (power), Y12 VCCO_3 (power)
part E pins: AC13 VCCO_4 (power), AC14 VCCO_4 (power), AC15 VCCO_4 (power), AC16 VCCO_4 (power), AC17 VCCO_4 (power), AD12 VCCO_4 (power), AD13 VCCO_4 (power), AD14 VCCO_4 (power), AD15 VCCO_4 (power), AD16 IO_L77N_4 (io), AD17 IO_L77P_4 (io), AE12 IO_L23N_4 (io), AE13 IO_L23P_4 (io), AE14 IO_L68N_4 (io), AE15 IO_L68P_4 (io), AE16 NC, AE17 NC, AF12 IO_L29N_4 (io), AF13 IO_L29P_4 (io), AF14 IO_L71N_4 (io), AF15 IO_L71P_4 (io), AF17 IO_L95N_4/GCLK3S (io), AG10 IO_L02N_4/D0 (io), AG11 IO_L26N_4 (io), AG12 IO_L26P_4 (io), AG13 IO_L53N_4 (io), AG14 IO_L53P_4 (io), AG15 IO_L74N_4 (io), AG16 IO_L74P_4 (io), AG17 IO_L95P_4/GCLK2P (io), AH9 IO_L21N_4 (io), AH10 IO_L21P_4/VREF_4 (io), AH11 IO_L02P_4/D1 (io), AH12 IO_L50P_4 (io), AH13 IO_L50N_4 (io), AH15 NC, AH16 NC, AH17 NC, AJ8 IO_L05P_4/VRN_4 (io), AJ9 IO_L20P_4 (io), AJ10 IO_L20N_4 (io), AJ11 IO_L51N_4 (io), AJ12 IO_L51P_4/VREF_4 (io), AJ13 IO_L69N_4 (io), AJ14 IO_L69P_4/VREF_4 (io), AJ15 NC, AJ16 IO_L92P_4 (io), AJ17 IO_L92N_4 (io), AK7 IO_L03N_4/D2/ALT_VRP_4 (io), AK8 IO_L03P_4/D3/ALT_VRN_4 (io), AK9 IO_L05N_4/VRP_4 (io), AK10 IO_L30N_4 (io), AK11 IO_L30P_4 (io), AK13 IO_L78P_4 (io), AK14 IO_L78N_4 (io), AK15 VCCO_4 (power), AK16 IO_L96N_4/GCLK1S (io), AK17 IO_L96P_4/GCLK0P (io), AL5 IO_L01P_4/INIT_B (io), AL6 IO_L04N_4/VREF_4 (io), AL7 VCCO_4 (power), AL8 IO_L24P_4 (io), AL9 IO_L28P_4 (io), AL10 IO_L28N_4 (io), AL11 IO_L54P_4 (io), AL12 IO_L70P_4 (io), AL13 IO_L70N_4 (io), AL14 NC, AL15 NC, AL16 IO_L91N_4/VREF_4 (io), AL17 IO_L91P_4 (io), AM2 IO_L19P_4 (io), AM4 IO_L01N_4/DOUT (io), AM6 IO_L04P_4 (io), AM7 IO_L06P_4 (io), AM8 IO_L06N_4 (io), AM9 IO_L24N_4 (io), AM11 IO_L54N_4 (io), AM12 IO_L72P_4 (io), AM13 IO_L72N_4 (io), AM14 IO_L93P_4 (io), AM15 IO_L93N_4 (io), AM16 IO_L94N_4/VREF_4 (io), AM17 IO_L94P_4 (io), AN3 IO_L19N_4 (io), AN4 IO_L22P_4 (io), AN5 IO_L22N_4 (io), AN6 IO_L27P_4/VREF_4 (io), AN7 IO_L27N_4 (io), AN8 IO_L52P_4 (io), AN9 NC, AN10 NC, AN11 IO_L67P_4 (io), AN12 IO_L67N_4 (io), AN13 IO_L75P_4/VREF_4 (io), AN14 IO_L75N_4 (io), AN16 NC, AN17 NC, AP4 IO_L25P_4 (io), AP5 IO_L25N_4 (io), AP6 IO_L49P_4 (io), AP7 IO_L49N_4 (io), AP9 IO_L52N_4 (io), AP10 VCCO_4 (power), AP11 IO_L73P_4 (io), AP12 IO_L73N_4 (io), AP13 IO_L76P_4 (io), AP14 IO_L76N_4 (io), AP15 NC, AP16 VCCO_4 (power), AP17 NC
part F pins: AC18 VCCO_5 (power), AC19 VCCO_5 (power), AC20 VCCO_5 (power), AC21 VCCO_5 (power), AC22 VCCO_5 (power), AD18 IO_L77N_5 (io), AD19 IO_L77P_5 (io), AD20 VCCO_5 (power), AD21 VCCO_5 (power), AD22 VCCO_5 (power), AD23 VCCO_5 (power), AE18 NC, AE19 NC, AE20 IO_L53N_5 (io), AE21 IO_L53P_5 (io), AE22 IO_L05N_5/VRP_5 (io), AE23 IO_L05P_5/VRN_5 (io), AF18 IO_L95P_5/GCLK4P (io), AF20 IO_L71N_5 (io), AF21 IO_L71P_5 (io), AF22 IO_L26N_5 (io), AF23 IO_L26P_5 (io), AF24 IO_L20P_5 (io), AG18 IO_L95N_5/GCLK5S (io), AG19 IO_L74N_5 (io), AG20 IO_L74P_5 (io), AG21 IO_L50N_5 (io), AG22 IO_L50P_5 (io), AG23 IO_L20N_5 (io), AG24 IO_L02N_5/D6 (io), AG25 IO_L02P_5/D7 (io), AH18 IO_L92P_5 (io), AH19 IO_L92N_5 (io), AH20 IO_L75P_5 (io), AH22 IO_L29P_5 (io), AH23 IO_L29N_5 (io), AH24 IO_L27N_5/VREF_5 (io), AH25 IO_L27P_5 (io), AH26 IO_L23N_5 (io), AJ18 IO_L93P_5 (io), AJ19 IO_L93N_5 (io), AJ20 IO_L75N_5/VREF_5 (io), AJ21 IO_L69N_5/VREF_5 (io), AJ22 IO_L69P_5 (io), AJ23 IO_L68P_5 (io), AJ24 IO_L68N_5 (io), AJ25 IO_L23P_5 (io), AJ26 IO_L06P_5 (io), AJ27 IO_L06N_5 (io), AK18 IO_L96N_5/GCLK7S (io), AK19 IO_L96P_5/GCLK6P (io), AK20 VCCO_5 (power), AK21 IO_L78P_5 (io), AK22 IO_L78N_5 (io), AK24 IO_L30N_5 (io), AK25 IO_L30P_5 (io), AK26 IO_L21N_5/VREF_5 (io), AK27 IO_L21P_5 (io), AK28 IO_L03N_5/D4/ALT_VRP_5 (io), AL18 IO_L94N_5 (io), AL19 IO_L94P_5/VREF_5 (io), AL20 NC, AL21 NC, AL22 IO_L72P_5 (io), AL23 IO_L72N_5 (io), AL24 IO_L54P_5 (io), AL25 IO_L54N_5 (io), AL26 IO_L24P_5 (io), AL27 IO_L24N_5 (io), AL28 VCCO_5 (power), AL29 IO_L03P_5/D5/ALT_VRN_5 (io), AL30 IO_L01N_5/RDWR_B (io), AM19 IO_L91N_5 (io), AM20 IO_L91P_5/VREF_5 (io), AM21 NC, AM22 NC, AM23 IO_L70P_5 (io), AM24 IO_L70N_5 (io), AM26 IO_L25P_5 (io), AM27 IO_L25N_5 (io), AM28 IO_L04N_5 (io), AM29 IO_L04P_5/VREF_5 (io), AM31 IO_L01P_5/CS_B (io), AM33 IO_L19N_5 (io), AN18 NC, AN19 NC, AN21 IO_L76P_5 (io), AN22 IO_L76N_5 (io), AN23 IO_L67P_5 (io), AN24 IO_L67N_5 (io), AN25 NC, AN26 NC, AN27 IO_L52N_5 (io), AN28 IO_L49P_5 (io), AN29 IO_L49N_5 (io), AN30 IO_L22P_5 (io), AN31 IO_L22N_5 (io), AN32 IO_L19P_5 (io), AP18 NC, AP19 VCCO_5 (power), AP20 NC, AP21 NC, AP22 NC, AP23 IO_L73P_5 (io), AP24 IO_L73N_5 (io), AP25 VCCO_5 (power), AP26 IO_L52P_5 (io), AP28 IO_L51P_5 (io), AP29 IO_L51N_5/VREF_5 (io), AP30 IO_L28P_5 (io), AP31 IO_L28N_5 (io)
part G pins: AA23 VCCO_6 (power), AA24 VCCO_6 (power), AA25 IO_L67P_6 (io), AA26 IO_L70P_6 (io), AA27 IO_L54N_6 (io), AA29 IO_L74N_6 (io), AA30 IO_L78P_6 (io), AA31 IO_L75N_6/VREF_6 (io), AA32 NC, AA33 IO_L77N_6 (io), AA34 NC, AB23 VCCO_6 (power), AB24 VCCO_6 (power), AB25 IO_L43N_6 (io), AB26 IO_L49N_6 (io), AB27 IO_L54P_6 (io), AB28 IO_L52N_6 (io), AB29 IO_L74P_6 (io), AB30 IO_L78N_6 (io), AB31 IO_L75P_6 (io), AB32 IO_L69N_6/VREF_6 (io), AB33 IO_L77P_6 (io), AB34 NC, AC24 VCCO_6 (power), AC25 IO_L43P_6 (io), AC26 IO_L49P_6 (io), AC27 IO_L46N_6 (io), AC28 IO_L52P_6 (io), AC29 IO_L50N_6 (io), AC31 IO_L72P_6 (io), AC32 IO_L69P_6 (io), AC33 IO_L68N_6 (io), AC34 IO_L71N_6 (io), AD25 IO_L01N_6 (io), AD26 IO_L28N_6 (io), AD27 IO_L46P_6 (io), AD28 IO_L27N_6/VREF_6 (io), AD29 IO_L50P_6 (io), AD30 IO_L48N_6 (io), AD31 IO_L72N_6 (io), AD32 IO_L45N_6/VREF_6 (io), AD33 IO_L68P_6 (io), AD34 IO_L71P_6 (io), AE24 IO_L01P_6 (io), AE25 IO_L04N_6 (io), AE26 IO_L28P_6 (io), AE27 IO_L25N_6 (io), AE28 IO_L27P_6 (io), AE29 IO_L24N_6 (io), AE30 IO_L48P_6 (io), AE31 IO_L45P_6 (io), AE33 IO_L53N_6 (io), AE34 VCCO_6 (power), AF25 IO_L04P_6 (io), AF26 IO_L19N_6 (io), AF27 IO_L25P_6 (io), AF28 IO_L22N_6 (io), AF29 IO_L24P_6 (io), AF30 IO_L23N_6 (io), AF31 IO_L29P_6 (io), AF32 IO_L30P_6 (io), AF33 IO_L51P_6 (io), AF34 IO_L53P_6 (io), AG26 IO_L19P_6 (io), AG28 IO_L22P_6 (io), AG29 IO_L06N_6 (io), AG30 IO_L23P_6 (io), AG31 IO_L29N_6 (io), AG32 IO_L30N_6 (io), AG33 IO_L51N_6/VREF_6 (io), AH29 IO_L06P_6 (io), AH30 IO_L02N_6/VRP_6 (io), AH31 VCCO_6 (power), AH32 IO_L21N_6/VREF_6 (io), AH33 IO_L44N_6 (io), AH34 IO_L47N_6 (io), AJ30 IO_L02P_6/VRN_6 (io), AJ31 IO_L05P_6 (io), AJ32 IO_L21P_6 (io), AJ33 IO_L44P_6 (io), AJ34 IO_L47P_6 (io), AK31 IO_L05N_6 (io), AK32 IO_L03N_6/VREF_6 (io), AK33 IO_L20N_6 (io), AK34 IO_L26N_6 (io), AL32 IO_L03P_6 (io), AL33 IO_L20P_6 (io), AL34 IO_L26P_6 (io), V23 VCCO_6 (power), V24 NC, V25 NC, V26 IO_L94P_6 (io), V27 IO_L94N_6 (io), V28 IO_L91N_6 (io), V29 NC, V30 IO_L95N_6 (io), V32 IO_L96P_6 (io), V33 IO_L92P_6 (io), V34 IO_L92N_6 (io), W23 VCCO_6 (power), W24 NC, W25 NC, W27 IO_L73N_6 (io), W28 IO_L91P_6 (io), W29 NC, W30 IO_L95P_6 (io), W31 IO_L93N_6/VREF_6 (io), W32 IO_L96N_6 (io), W33 NC, W34 VCCO_6 (power), Y23 VCCO_6 (power), Y24 VCCO_6 (power), Y25 IO_L67N_6 (io), Y26 IO_L70N_6 (io), Y27 IO_L73P_6 (io), Y28 IO_L76P_6 (io), Y29 IO_L76N_6 (io), Y30 VCCO_6 (power), Y31 IO_L93P_6 (io), Y32 NC, Y34 NC
part H pins: D32 IO_L06P_7 (io), D33 IO_L01P_7 (io), D34 IO_L04P_7 (io), E31 IO_L19P_7 (io), E32 IO_L06N_7 (io), E33 IO_L01N_7 (io), E34 IO_L04N_7 (io), F30 IO_L03N_7 (io), F31 IO_L19N_7 (io), F32 IO_L30P_7 (io), F33 IO_L22P_7 (io), F34 IO_L28P_7 (io), G29 IO_L24P_7 (io), G30 IO_L03P_7/VREF_7 (io), G31 VCCO_7 (power), G32 IO_L30N_7 (io), G33 IO_L22N_7 (io), G34 IO_L28N_7 (io), H28 IO_L25P_7 (io), H29 IO_L24N_7 (io), H30 IO_L27N_7 (io), H31 IO_L43P_7 (io), H32 IO_L48P_7 (io), H33 IO_L45P_7/VREF_7 (io), J25 IO_L02N_7/VRP_7 (io), J26 IO_L20N_7 (io), J27 IO_L21N_7 (io), J28 IO_L21P_7/VREF_7 (io), J29 IO_L25N_7 (io), J30 IO_L27P_7/VREF_7 (io), J31 IO_L43N_7 (io), J32 IO_L48N_7 (io), J33 IO_L46P_7 (io), J34 IO_L45N_7 (io), K24 IO_L05N_7 (io), K25 IO_L02P_7/VRN_7 (io), K26 IO_L23N_7 (io), K27 IO_L20P_7 (io), K28 IO_L26P_7 (io), K29 IO_L53P_7 (io), K30 IO_L49P_7 (io), K31 IO_L49N_7 (io), K33 IO_L46N_7 (io), K34 VCCO_7 (power), L25 IO_L05P_7 (io), L26 IO_L23P_7 (io), L27 IO_L44N_7 (io), L28 IO_L26N_7 (io), L29 IO_L51N_7 (io), L30 IO_L53N_7 (io), L31 IO_L54P_7 (io), L32 IO_L67P_7 (io), L33 IO_L52P_7 (io), L34 IO_L70P_7 (io), M24 VCCO_7 (power), M25 IO_L29N_7 (io), M26 IO_L47N_7 (io), M27 IO_L44P_7 (io), M28 IO_L50P_7 (io), M29 IO_L51P_7/VREF_7 (io), M31 IO_L54N_7 (io), M32 IO_L67N_7 (io), M33 IO_L52N_7 (io), M34 IO_L70N_7 (io), N23 VCCO_7 (power), N24 VCCO_7 (power), N25 IO_L29P_7 (io), N26 IO_L47P_7 (io), N27 IO_L68N_7 (io), N28 IO_L50N_7 (io), N29 IO_L69N_7 (io), N30 IO_L72P_7 (io), N31 IO_L73P_7 (io), N32 IO_L78P_7 (io), N33 IO_L76P_7 (io), N34 NC, P23 VCCO_7 (power), P24 VCCO_7 (power), P25 IO_L71N_7 (io), P26 IO_L74N_7 (io), P27 IO_L68P_7 (io), P29 IO_L69P_7/VREF_7 (io), P30 IO_L72N_7 (io), P31 IO_L73N_7 (io), P32 IO_L78N_7 (io), P33 IO_L76N_7 (io), P34 NC, R23 VCCO_7 (power), R24 VCCO_7 (power), R25 IO_L71P_7 (io), R26 IO_L74P_7 (io), R27 IO_L77N_7 (io), R28 IO_L75N_7 (io), R29 IO_L75P_7/VREF_7 (io), R30 VCCO_7 (power), R31 NC, R32 NC, R34 NC, T23 VCCO_7 (power), T24 NC, T25 NC, T27 IO_L77P_7 (io), T28 IO_L95P_7 (io), T29 IO_L93N_7 (io), T30 IO_L91P_7 (io), T31 NC, T32 NC, T33 NC, T34 VCCO_7 (power), U23 VCCO_7 (power), U24 NC, U25 NC, U26 IO_L92N_7 (io), U27 IO_L92P_7 (io), U28 IO_L95N_7 (io), U29 IO_L93P_7/VREF_7 (io), U30 IO_L91N_7 (io), U31 IO_L96P_7 (io), U33 IO_L94P_7 (io), U34 IO_L94N_7 (io), V31 IO_L96N_7 (io)
part I pins: AA13 VCCINT (power), AA22 VCCINT (power), AB13 VCCINT (power), AB14 VCCINT (power), AB15 VCCINT (power), AB16 VCCINT (power), AB17 VCCINT (power), AB18 VCCINT (power), AB19 VCCINT (power), AB20 VCCINT (power), AB21 VCCINT (power), AB22 VCCINT (power), AC12 VCCINT (power), AC23 VCCINT (power), AD11 VCCINT (power), AD24 VCCINT (power), AH8 CCLK (io), AH27 M0 (in), AJ7 DONE (io), AJ28 M1 (in), AK6 PWRDWN_B (in), AK29 M2 (in), AM5 VCCAUX (power), AM18 VCCAUX (power), AM30 VCCAUX (power), C4 VBATT (power), C5 VCCAUX (power), C17 VCCAUX (power), C30 VCCAUX (power), C31 TDI (in), D5 TDO (out), D30 PROG_B (in), E6 TMS (in), E29 HSWAP_EN (in), F7 TCK (in), F28 DXN, G8 RSVD, G27 DXP, L11 VCCINT (power), L24 VCCINT (power), M12 VCCINT (power), M23 VCCINT (power), N13 VCCINT (power), N14 VCCINT (power), N15 VCCINT (power), N16 VCCINT (power), N17 VCCINT (power), N18 VCCINT (power), N19 VCCINT (power), N20 VCCINT (power), N21 VCCINT (power), N22 VCCINT (power), P13 VCCINT (power), P22 VCCINT (power), R13 VCCINT (power), R22 VCCINT (power), T13 VCCINT (power), T22 VCCINT (power), U13 VCCINT (power), U22 VCCINT (power), U32 VCCAUX (power), V3 VCCAUX (power), V13 VCCINT (power), V22 VCCINT (power), W13 VCCINT (power), W22 VCCINT (power), Y13 VCCINT (power), Y22 VCCINT (power)
part J pins: A2 GND (power), A3 GND (power), A8 GND (power), A27 GND (power), A32 GND (power), A33 GND (power), AA7 GND (power), AA14 GND (power), AA15 GND (power), AA16 GND (power), AA17 GND (power), AA18 GND (power), AA19 GND (power), AA20 GND (power), AA21 GND (power), AA28 GND (power), AC5 GND (power), AC30 GND (power), AE3 GND (power), AE32 GND (power), AF16 GND (power), AF19 GND (power), AG1 GND (power), AG8 GND (power), AG27 GND (power), AG34 GND (power), AH7 GND (power), AH14 GND (power), AH21 GND (power), AH28 GND (power), AJ6 GND (power), AJ29 GND (power), AK5 GND (power), AK12 GND (power), AK23 GND (power), AK30 GND (power), AL4 GND (power), AL31 GND (power), AM1 GND (power), AM3 GND (power), AM10 GND (power), AM25 GND (power), AM32 GND (power), AM34 GND (power), AN1 GND (power), AN2 GND (power), AN15 GND (power), AN20 GND (power), AN33 GND (power), AN34 GND (power), AP2 GND (power), AP3 GND (power), AP8 GND (power), AP27 GND (power), AP32 GND (power), AP33 GND (power), B1 GND (power), B2 GND (power), B15 GND (power), B20 GND (power), B33 GND (power), B34 GND (power), C1 GND (power), C3 GND (power), C10 GND (power), C25 GND (power), C32 GND (power), C34 GND (power), D4 GND (power), D31 GND (power), E5 GND (power), E12 GND (power), E23 GND (power), E30 GND (power), F6 GND (power), F29 GND (power), G7 GND (power), G14 GND (power), G21 GND (power), G28 GND (power), H1 GND (power), H8 GND (power), H27 GND (power), H34 GND (power), J16 GND (power), J19 GND (power), K3 GND (power), K32 GND (power), M5 GND (power), M30 GND (power), P7 GND (power), P14 GND (power), P15 GND (power), P16 GND (power), P17 GND (power), P18 GND (power), P19 GND (power), P20 GND (power), P21 GND (power), P28 GND (power), R2 GND (power), R14 GND (power), R15 GND (power), R16 GND (power), R17 GND (power), R18 GND (power), R19 GND (power), R20 GND (power), R21 GND (power), R33 GND (power), T9 GND (power), T14 GND (power), T15 GND (power), T16 GND (power), T17 GND (power), T18 GND (power), T19 GND (power), T20 GND (power), T21 GND (power), T26 GND (power), U14 GND (power), U15 GND (power), U16 GND (power), U17 GND (power), U18 GND (power), U19 GND (power), U20 GND (power), U21 GND (power), V14 GND (power), V15 GND (power), V16 GND (power), V17 GND (power), V18 GND (power), V19 GND (power), V20 GND (power), V21 GND (power), W9 GND (power), W14 GND (power), W15 GND (power), W16 GND (power), W17 GND (power), W18 GND (power), W19 GND (power), W20 GND (power), W21 GND (power), W26 GND (power), Y2 GND (power), Y14 GND (power), Y15 GND (power), Y16 GND (power), Y17 GND (power), Y18 GND (power), Y19 GND (power), Y20 GND (power), Y21 GND (power), Y33 GND (power)
part A text: Bank 0
part B text: Bank 1
part C text: Bank 2
part D text: Bank 3
part E text: Bank 4
part F text: Bank 5
part G text: Bank 6
part H text: Bank 7

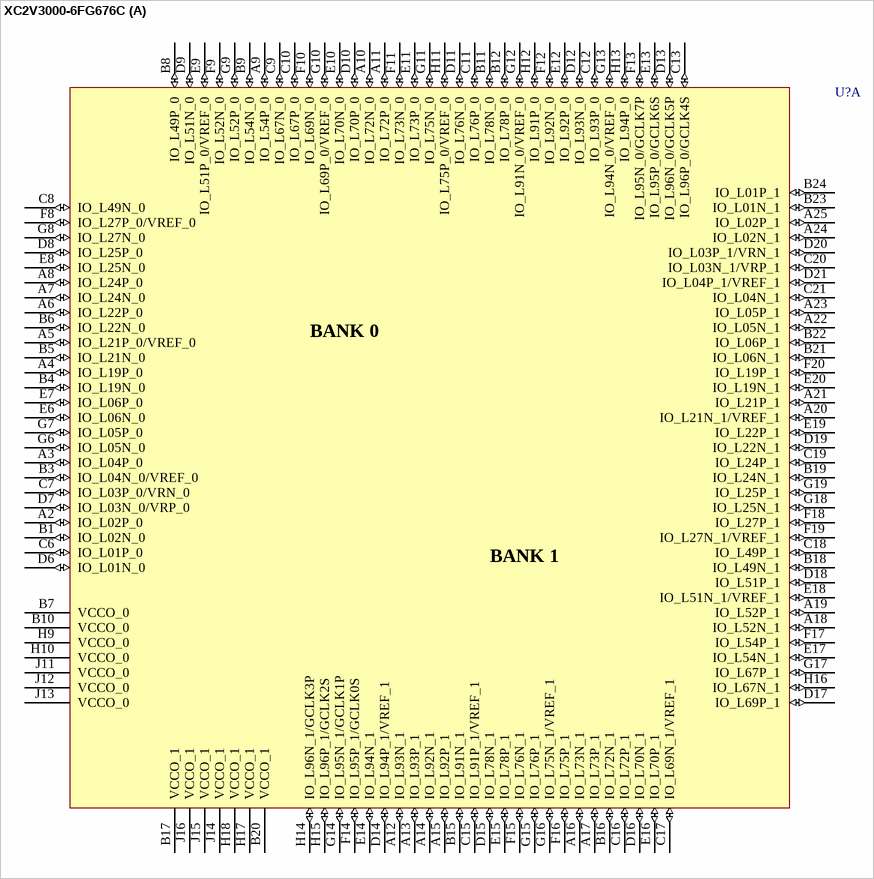
[diagram p290: symbol XC2V3000-6FG676C]

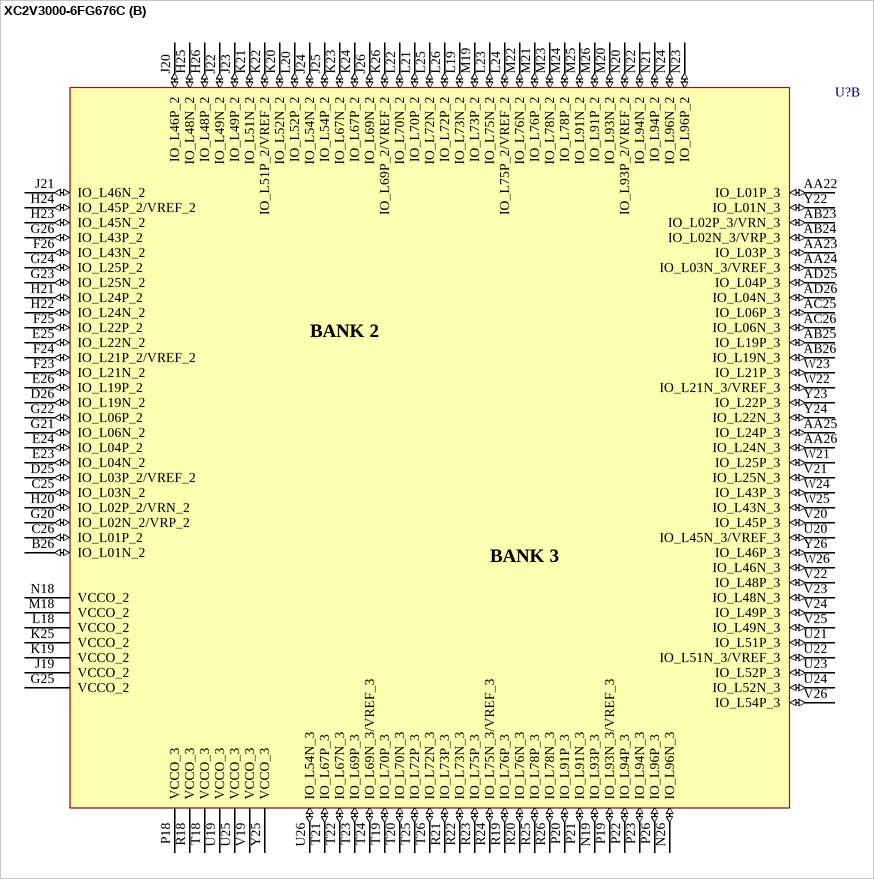
[diagram p291: symbol XC2V3000-6FG676C]

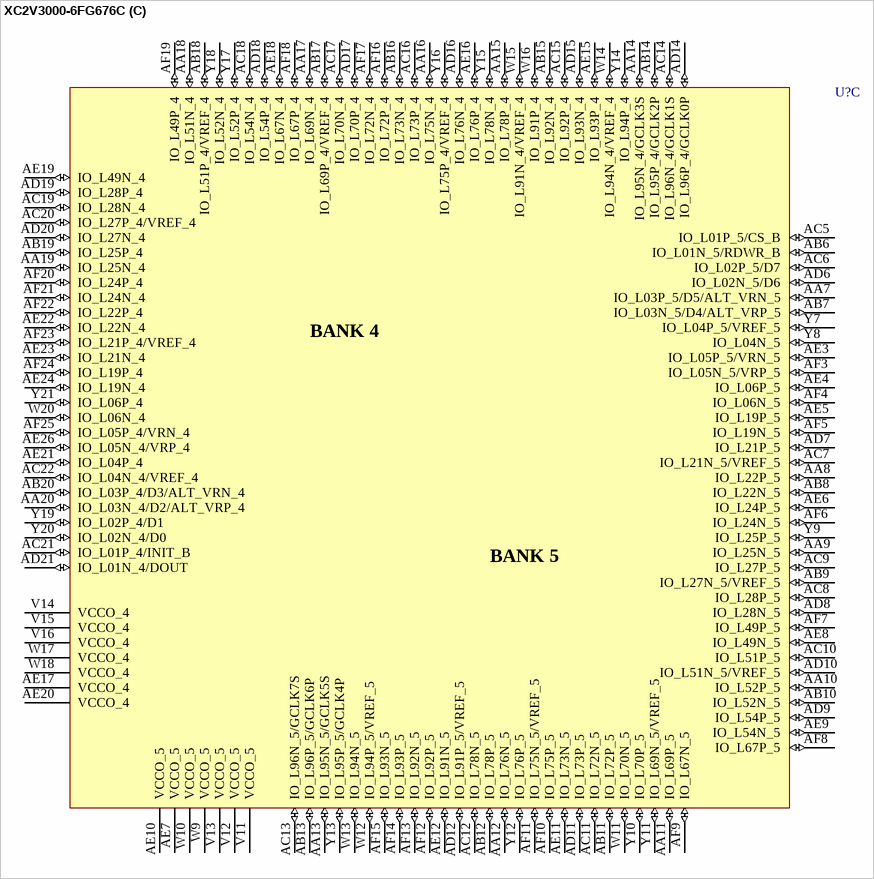
[diagram p292: symbol XC2V3000-6FG676C]

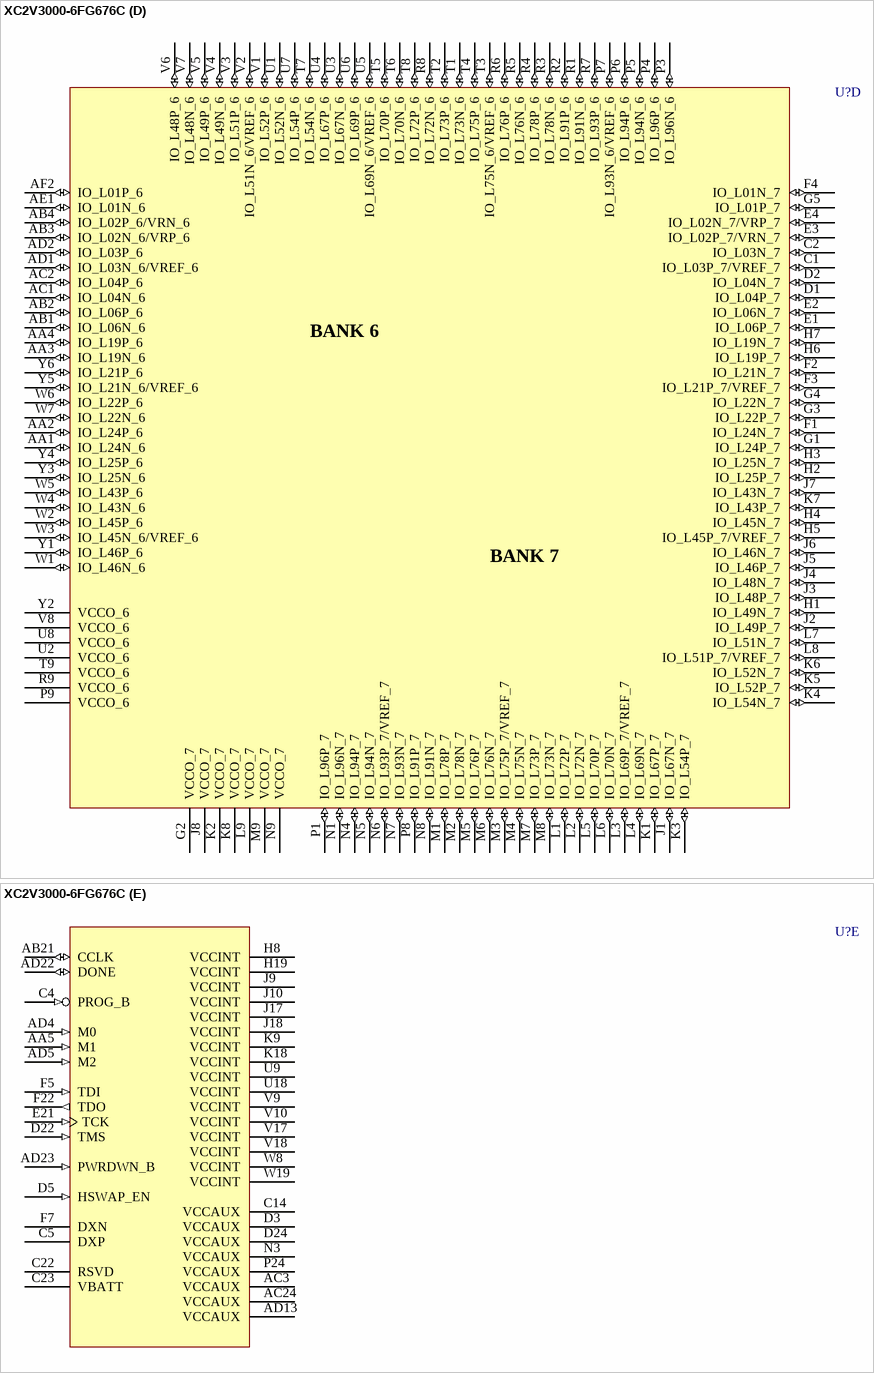
[diagram p293: symbol XC2V3000-6FG676C]

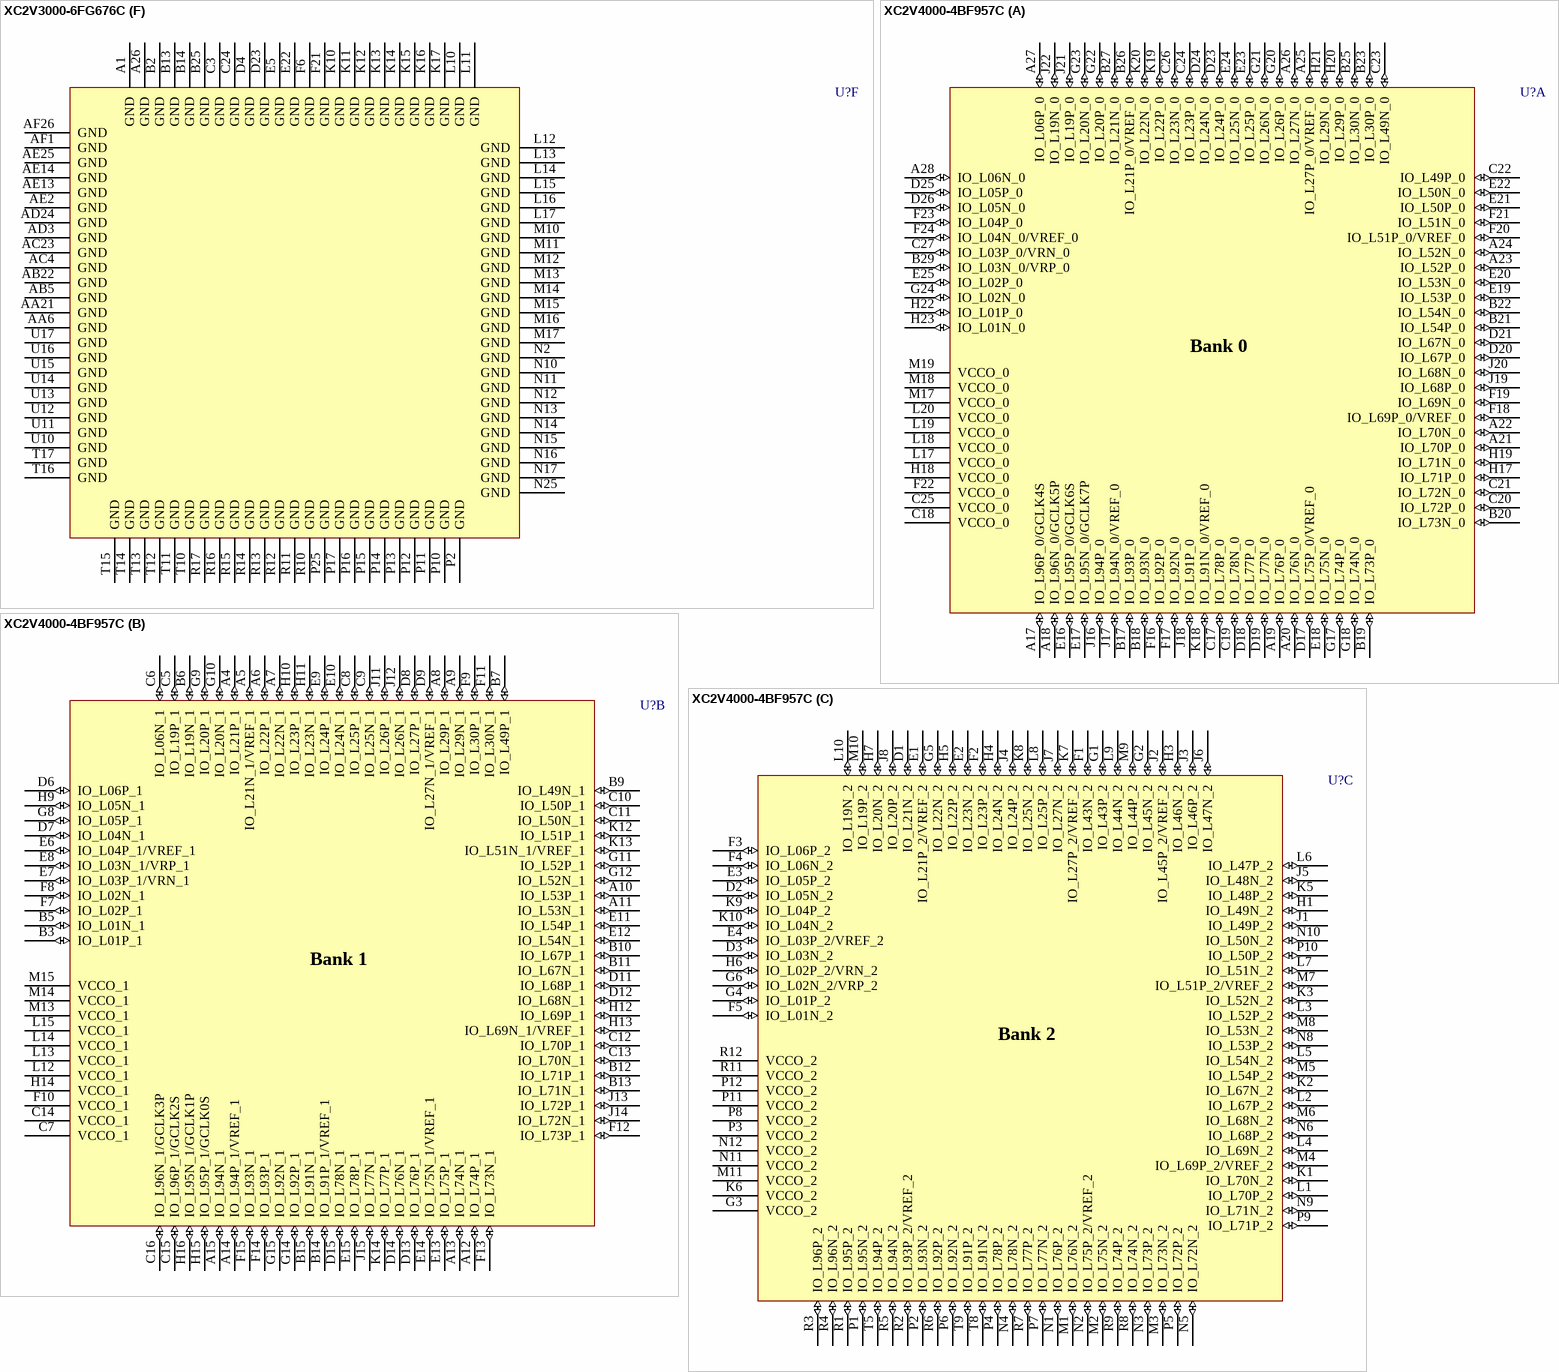
[diagram p294: symbols XC2V3000-6FG676C to XC2V4000-4BF957C]